# Altium schematic symbol library burr-brown.SCHLIB: 341 symbols (part 2 of 3)
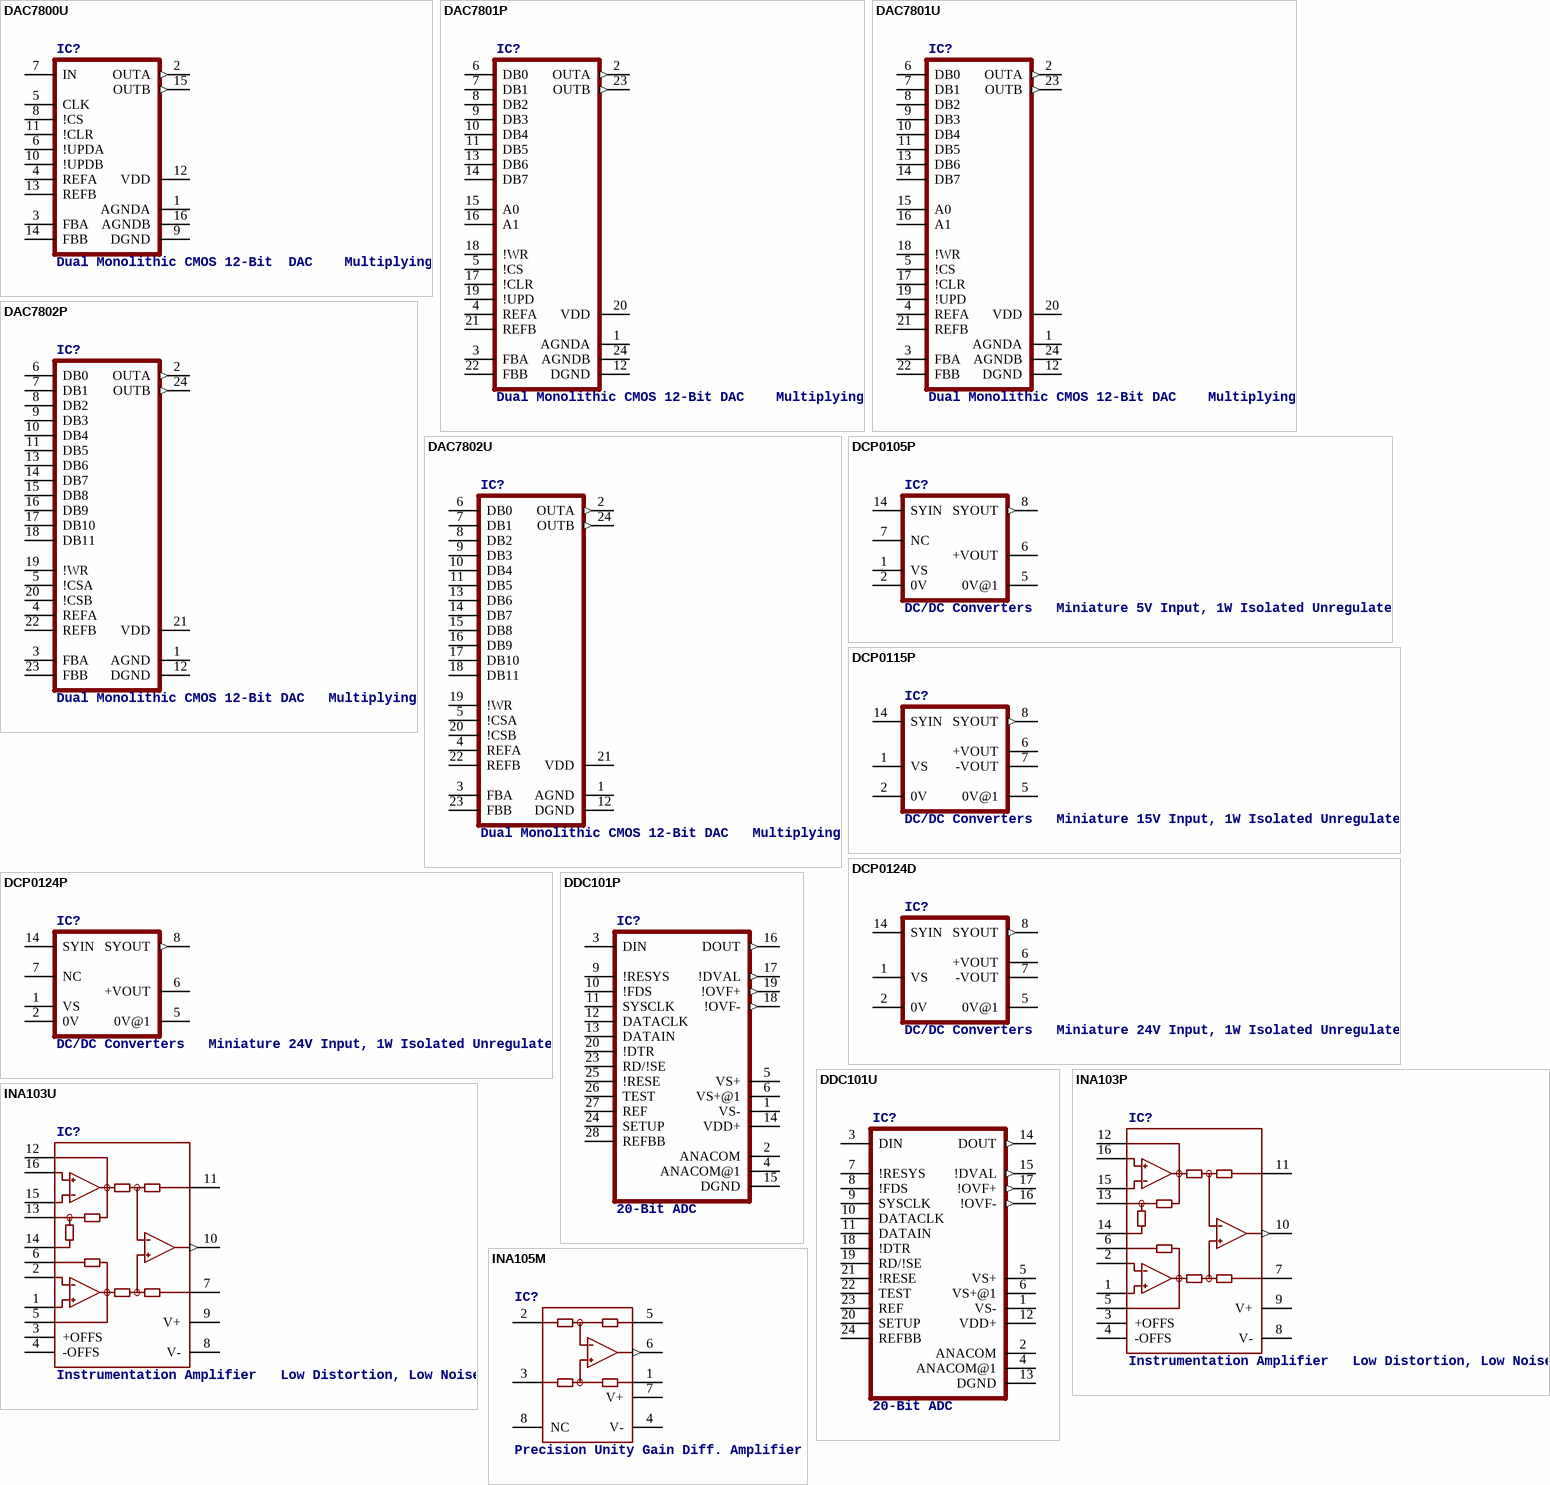
[diagram p28: symbols DAC7800U to INA105M]

## DCP0124P
designator IC?, comment DC/DC Converters   Miniature 24V Input, 1W Isolated Unregulated
MPN: DCP012415DBP-U; MF: TEXAS INSTRUMENTS; OC_FARNELL: 1247063; OC_NEWARK: 76K4235
footprint DIL14/7
pins: 1 VS (power), 2 0V (power), 5 0V@1 (power), 6 +VOUT (power), 7 NC, 8 SYOUT (out), 14 SYIN

## DDC101P
designator IC?, comment 20-Bit ADC
OC_FARNELL: unknown; OC_NEWARK: unknown
footprint DIL28
pins: 1 VS- (power), 2 ANACOM (power), 3 DIN, 4 ANACOM@1 (power), 5 VS+ (power), 6 VS+@1 (power), 9 !RESYS, 10 !FDS, 11 SYSCLK, 12 DATACLK, 13 DATAIN, 14 VDD+ (power), 15 DGND, 16 DOUT (out), 17 !DVAL (out), 18 !OVF- (out), 19 !OVF+ (out), 20 !DTR, 23 RD/!SE, 24 SETUP, 25 !RESE, 26 TEST, 27 REF, 28 REFBB

## DDC101U
designator IC?, comment 20-Bit ADC
MPN: DDC101U; MF: TEXAS INSTRUMENTS; OC_FARNELL: 1459305; OC_NEWARK: 05M6382
footprint SO24L
pins: 1 VS- (power), 2 ANACOM (power), 3 DIN, 4 ANACOM@1 (power), 5 VS+ (power), 6 VS+@1 (power), 7 !RESYS, 8 !FDS, 9 SYSCLK, 10 DATACLK, 11 DATAIN, 12 VDD+ (power), 13 DGND, 14 DOUT (out), 15 !DVAL (out), 16 !OVF- (out), 17 !OVF+ (out), 18 !DTR, 19 RD/!SE, 20 SETUP, 21 !RESE, 22 TEST, 23 REF, 24 REFBB

## INA103P
designator IC?, comment Instrumentation Amplifier   Low Distortion, Low Noise
MPN: INA103KP; MF: TEXAS INSTRUMENTS; OC_FARNELL: 1212392; OC_NEWARK: 74K3805
footprint DIL16
pins: 1 +IN, 2 +GS, 3 +OFFS, 4 -OFFS, 5 +GD, 6 +RG, 7 REF, 8 V- (power), 9 V+ (power), 10 OUT (out), 11 SENSE, 12 -GD, 13 -RG, 14 G=100, 15 -GS, 16 -IN

## INA103U
designator IC?, comment Instrumentation Amplifier   Low Distortion, Low Noise
MPN: INA103KU; MF: TEXAS INSTRUMENTS; OC_FARNELL: 1212393; OC_NEWARK: 35C1712
footprint SO16-1
pins: 1 +IN, 2 +GS, 3 +OFFS, 4 -OFFS, 5 +GD, 6 +RG, 7 REF, 8 V- (power), 9 V+ (power), 10 OUT (out), 11 SENSE, 12 -GD, 13 -RG, 14 G=100, 15 -GS, 16 -IN

## INA105M
designator IC?, comment Precision Unity Gain Diff. Amplifier
MPN: INA105BM; MF: TEXAS INSTRUMENT CONNECTORS; OC_FARNELL: 1459423; OC_NEWARK: 88K1114
footprint TO99
pins: 1 REF, 2 -IN, 3 +IN, 4 V- (power), 5 SENSE, 6 OUT (out), 7 V+ (power), 8 NC

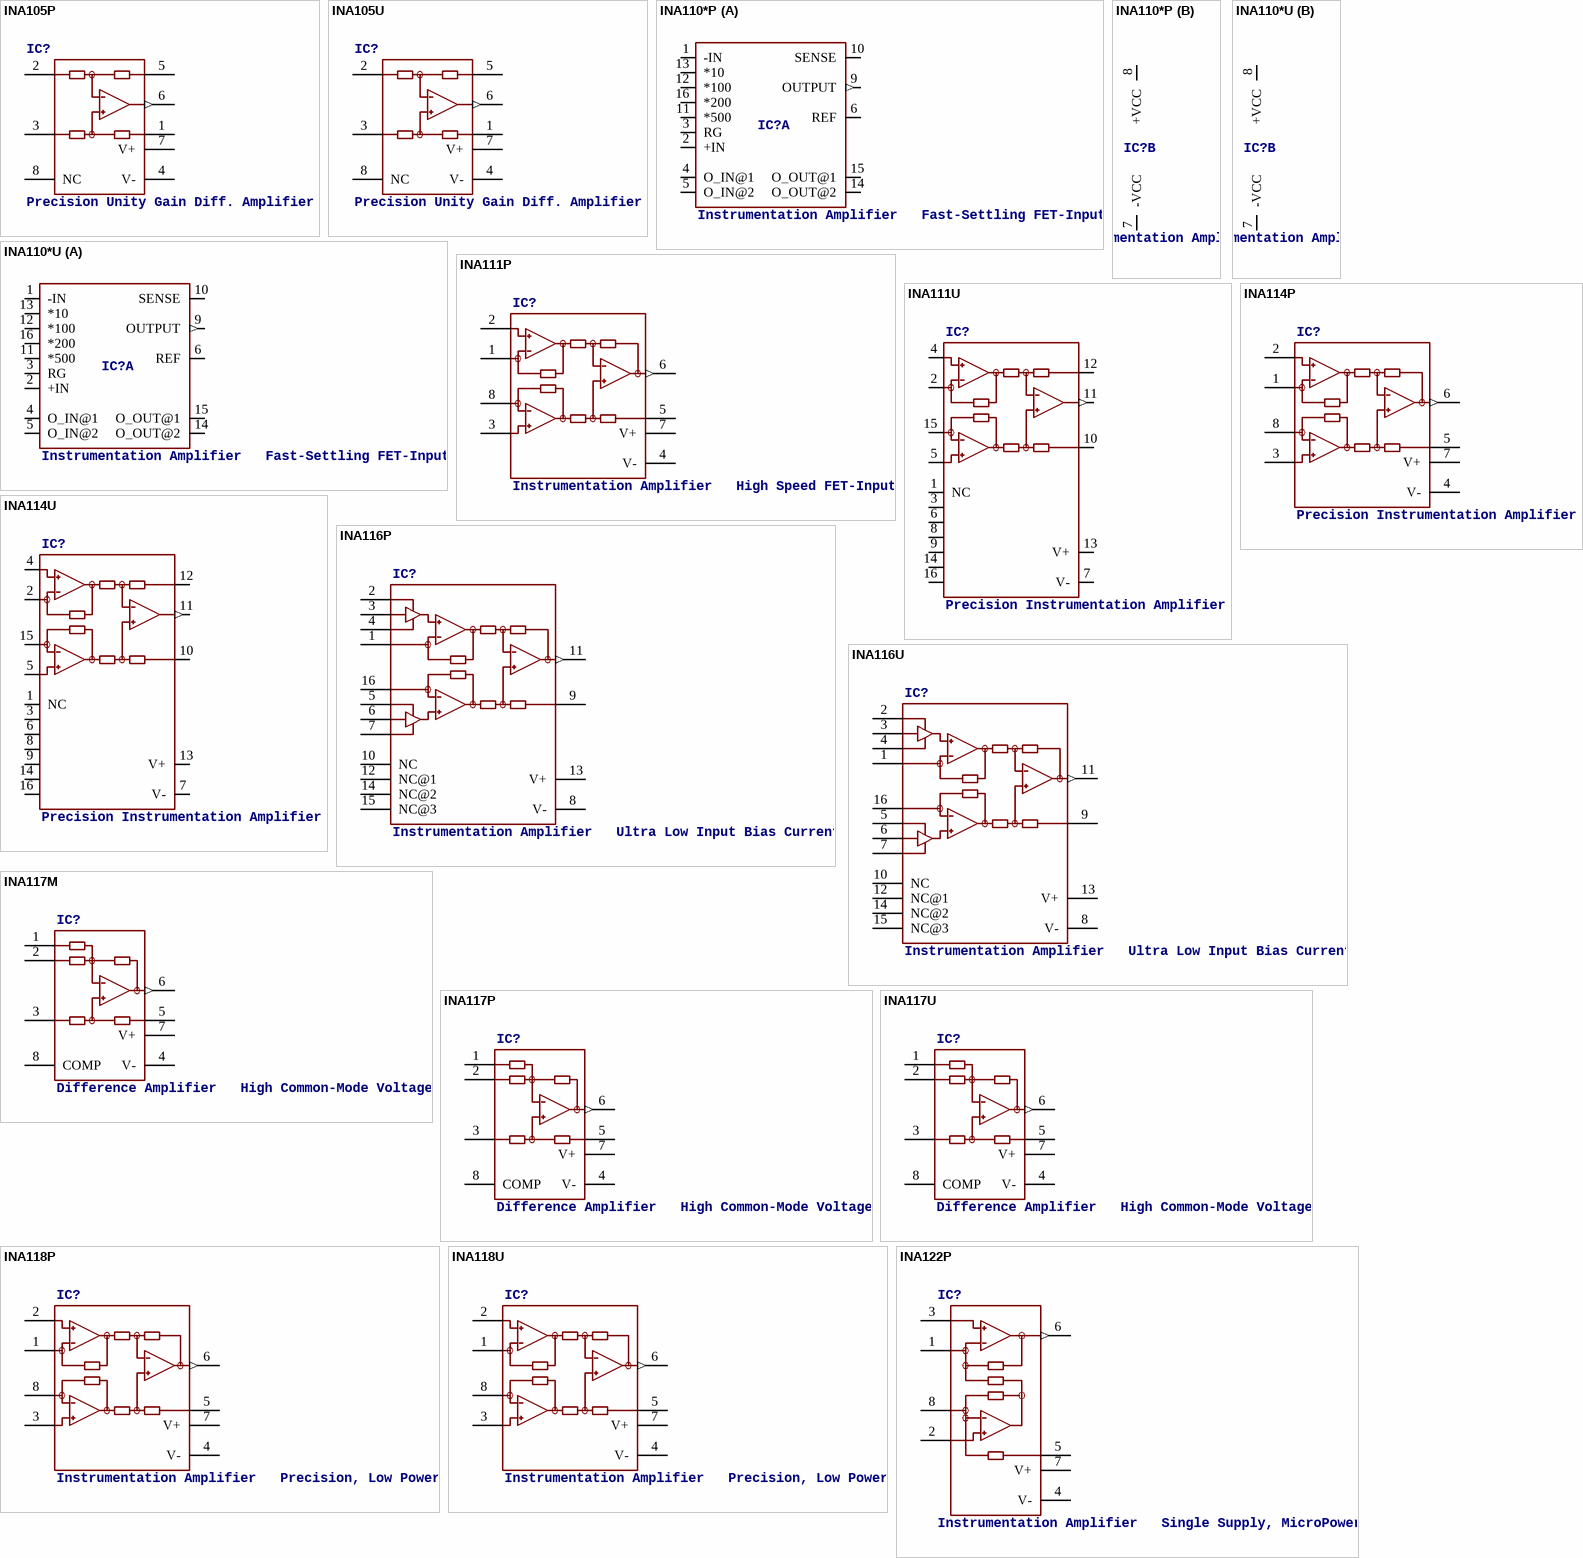
[diagram p10: symbols INA105P to INA122P]

## INA105P
designator IC?, comment Precision Unity Gain Diff. Amplifier
MPN: INA105KP; MF: TEXAS INSTRUMENTS; OC_FARNELL: 1651850; OC_NEWARK: 04M4538
footprint DIL08
pins: 1 REF, 2 -IN, 3 +IN, 4 V- (power), 5 SENSE, 6 OUT (out), 7 V+ (power), 8 NC

## INA105U
designator IC?, comment Precision Unity Gain Diff. Amplifier
MPN: INA105KU; MF: TEXAS INSTRUMENTS; OC_FARNELL: 1754832; OC_NEWARK: 35C0475
footprint SO08
pins: 1 REF, 2 -IN, 3 +IN, 4 V- (power), 5 SENSE, 6 OUT (out), 7 V+ (power), 8 NC

## INA110*P
designator IC?, comment Instrumentation Amplifier   Fast-Settling FET-Input
MPN: INA110KP; MF: TEXAS INSTRUMENTS; OC_FARNELL: 1097535; OC_NEWARK: 74K3807
footprint DIL16
part A pins: 1 -IN, 2 +IN, 3 RG, 4 O_IN@1, 5 O_IN@2, 6 REF, 9 OUTPUT (out), 10 SENSE, 11 *500, 12 *100, 13 *10, 14 O_OUT@2, 15 O_OUT@1, 16 *200
part B pins: 7 -VCC (power), 8 +VCC (power)

## INA110*U
designator IC?, comment Instrumentation Amplifier   Fast-Settling FET-Input
MPN: INA110KU; MF: TEXAS INSTRUMENTS; OC_FARNELL: 1212396; OC_NEWARK: 04M4539
footprint SO16-1
part A pins: 1 -IN, 2 +IN, 3 RG, 4 O_IN@1, 5 O_IN@2, 6 REF, 9 OUTPUT (out), 10 SENSE, 11 *500, 12 *100, 13 *10, 14 O_OUT@2, 15 O_OUT@1, 16 *200
part B pins: 7 -VCC (power), 8 +VCC (power)

## INA111P
designator IC?, comment Instrumentation Amplifier   High Speed FET-Input
MPN: INA111BP; MF: TEXAS INSTRUMENT CONNECTORS; OC_FARNELL: 1212397; OC_NEWARK: 27C4351
footprint DIL08
pins: 1 RG, 2 -IN, 3 +IN, 4 V- (power), 5 REF, 6 OUT (out), 7 V+ (power), 8 RG@1

## INA111U
designator IC?, comment Precision Instrumentation Amplifier
MPN: INA111BP; MF: TEXAS INSTRUMENT CONNECTORS; OC_FARNELL: 1212397; OC_NEWARK: 27C4351
footprint SO16-1
pins: 1 NC, 2 RG, 3 NC@1, 4 -IN, 5 +IN, 6 NC@2, 7 V- (power), 8 NC@3, 9 NC@4, 10 REF, 11 OUT (out), 12 FB, 13 V+ (power), 14 NC@5, 15 RG@1, 16 NC@6

## INA114P
designator IC?, comment Precision Instrumentation Amplifier
MPN: INA114BP; MF: TEXAS INSTRUMENTS; OC_FARNELL: 1212399; OC_NEWARK: 74K3810
footprint DIL08
pins: 1 RG, 2 -IN, 3 +IN, 4 V- (power), 5 REF, 6 OUT (out), 7 V+ (power), 8 RG@1

## INA114U
designator IC?, comment Precision Instrumentation Amplifier
MPN: INA114BU; MF: TEXAS INSTRUMENTS; OC_FARNELL: 1212401; OC_NEWARK: 74C9759
footprint SO16-1
pins: 1 NC, 2 RG, 3 NC@1, 4 -IN, 5 +IN, 6 NC@2, 7 V- (power), 8 NC@3, 9 NC@4, 10 REF, 11 OUT (out), 12 FB, 13 V+ (power), 14 NC@5, 15 RG@1, 16 NC@6

## INA116P
designator IC?, comment Instrumentation Amplifier   Ultra Low Input Bias Current
MPN: INA116PA; MF: TEXAS INSTRUMENT CONNECTORS; OC_FARNELL: 1231983; OC_NEWARK: 78K8300
footprint DIL16
pins: 1 RG, 2 GUARD-, 3 -IN, 4 GUARD-@1, 5 GUARD+, 6 +IN, 7 GUARD+@1, 8 V- (power), 9 REF, 10 NC, 11 OUT (out), 12 NC@1, 13 V+ (power), 14 NC@2, 15 NC@3, 16 RG@1

## INA116U
designator IC?, comment Instrumentation Amplifier   Ultra Low Input Bias Current
MPN: INA116UA; MF: TEXAS INSTRUMENTS; OC_FARNELL: 1212402; OC_NEWARK: 35C1717
footprint SO16-1
pins: 1 RG, 2 GUARD-, 3 -IN, 4 GUARD-@1, 5 GUARD+, 6 +IN, 7 GUARD+@1, 8 V- (power), 9 REF, 10 NC, 11 OUT (out), 12 NC@1, 13 V+ (power), 14 NC@2, 15 NC@3, 16 RG@1

## INA117M
designator IC?, comment Difference Amplifier   High Common-Mode Voltage
MPN: INA117AM; OC_FARNELL: 1459424; OC_NEWARK: 61M6784
footprint TO99
pins: 1 REFB, 2 -IN, 3 +IN, 4 V- (power), 5 REFA, 6 OUT (out), 7 V+ (power), 8 COMP

## INA117P
designator IC?, comment Difference Amplifier   High Common-Mode Voltage
MPN: INA117P; MF: TEXAS INSTRUMENTS; OC_FARNELL: 1470350; OC_NEWARK: 74K3811
footprint DIL08
pins: 1 REFB, 2 -IN, 3 +IN, 4 V- (power), 5 REFA, 6 OUT (out), 7 V+ (power), 8 COMP

## INA117U
designator IC?, comment Difference Amplifier   High Common-Mode Voltage
MPN: INA117KU; MF: TEXAS INSTRUMENTS; OC_FARNELL: 1706653; OC_NEWARK: 17M6717
footprint SO08
pins: 1 REFB, 2 -IN, 3 +IN, 4 V- (power), 5 REFA, 6 OUT (out), 7 V+ (power), 8 COMP

## INA118P
designator IC?, comment Instrumentation Amplifier   Precision, Low Power
MPN: INA118P; MF: TEXAS INSTRUMENTS; OC_FARNELL: 1470354; OC_NEWARK: 96K4515
footprint DIL08
pins: 1 RG, 2 -IN, 3 +IN, 4 V- (power), 5 REF, 6 OUT (out), 7 V+ (power), 8 RG@1

## INA118U
designator IC?, comment Instrumentation Amplifier   Precision, Low Power
MPN: INA118U; MF: TEXAS INSTRUMENTS; OC_FARNELL: 1212404; OC_NEWARK: 04M6168
footprint SO08
pins: 1 RG, 2 -IN, 3 +IN, 4 V- (power), 5 REF, 6 OUT (out), 7 V+ (power), 8 RG@1

## INA122P
designator IC?, comment Instrumentation Amplifier   Single Supply, MicroPower
MPN: INA122P; MF: TEXAS INSTRUMENTS; OC_FARNELL: 1459460; OC_NEWARK: 15M0948
footprint DIL08
pins: 1 RG, 2 -IN, 3 +IN, 4 V- (power), 5 REF, 6 OUT (out), 7 V+ (power), 8 RG@1

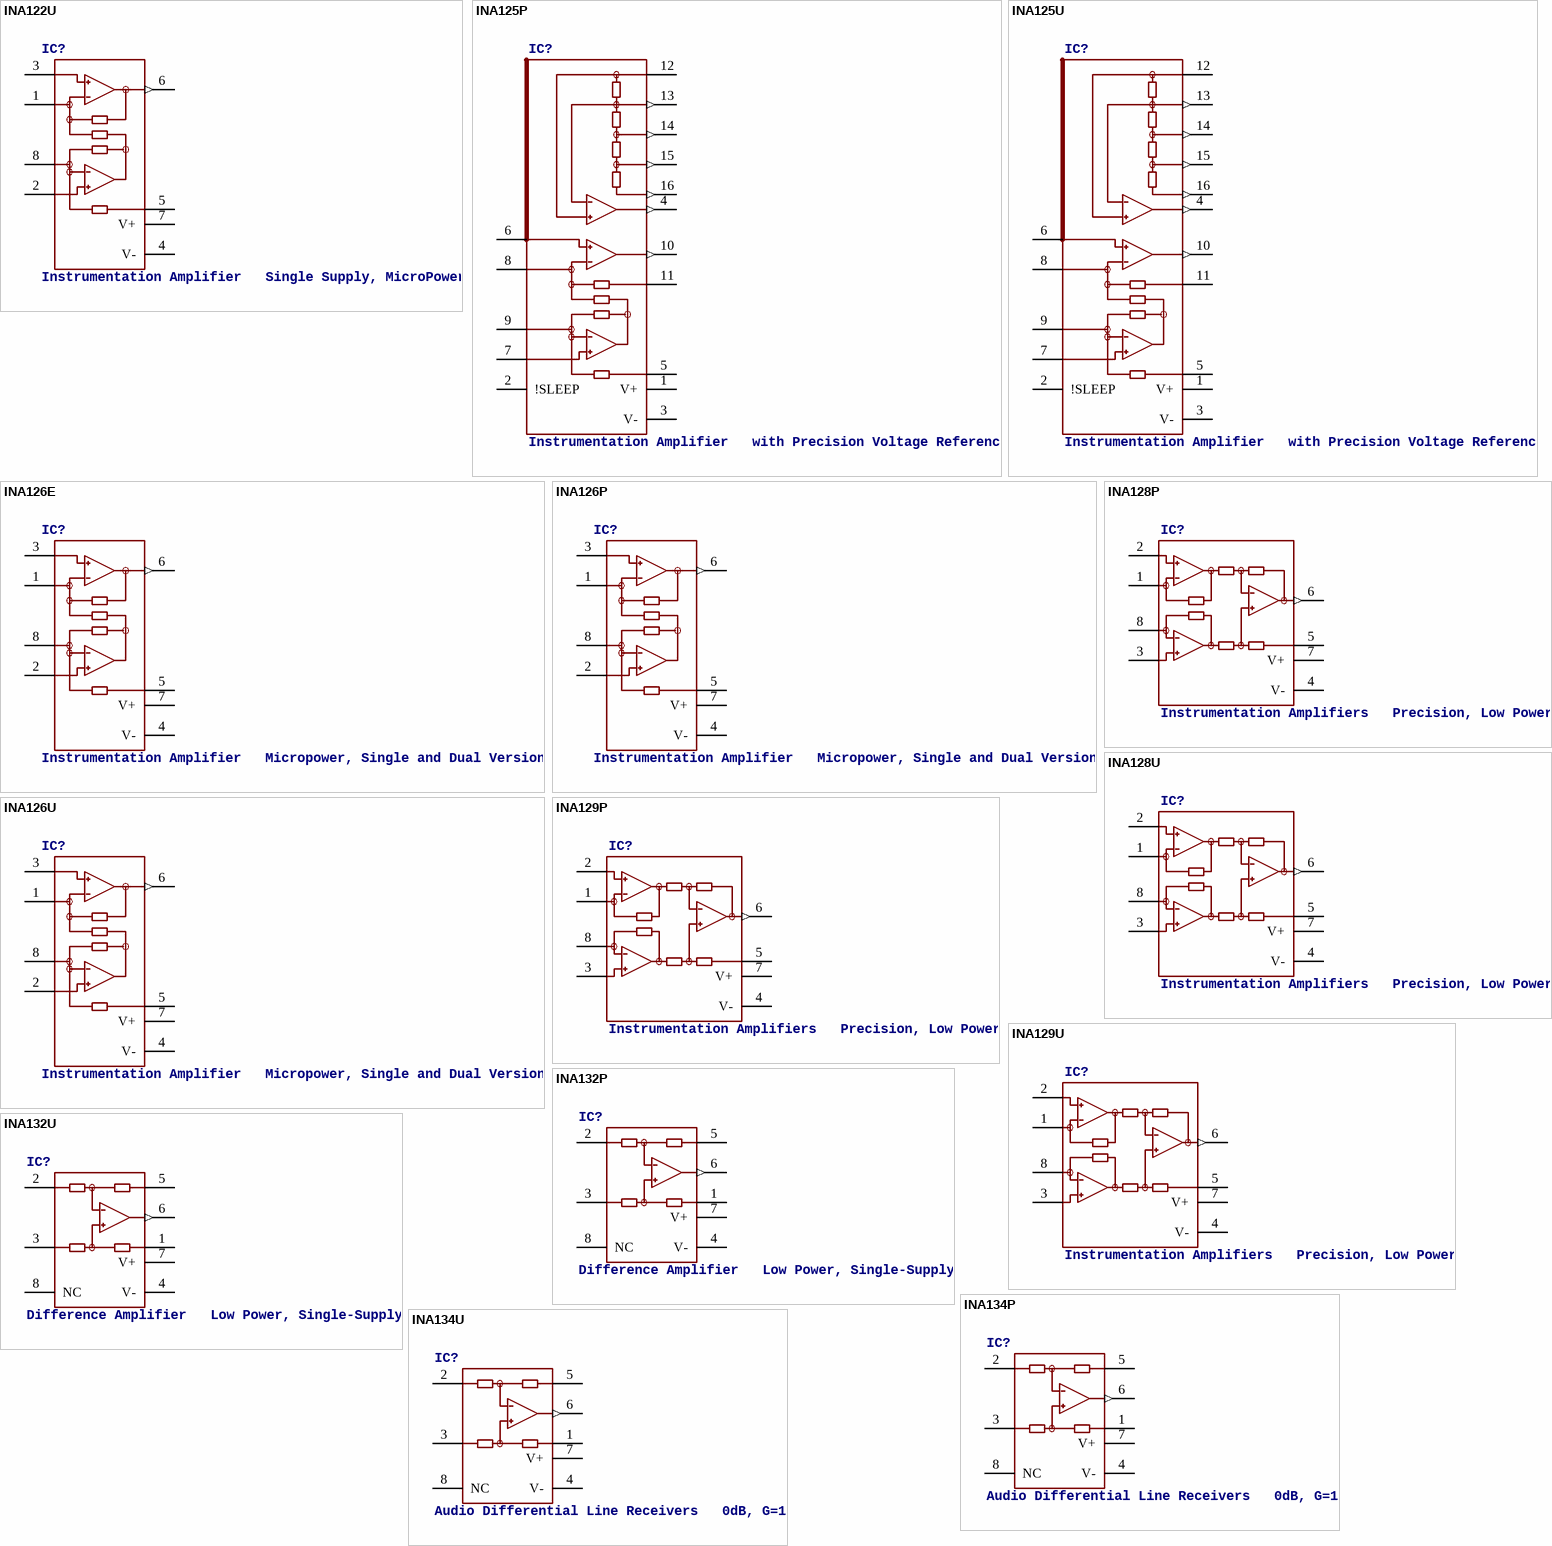
[diagram p11: symbols INA122U to INA134U]

## INA122U
designator IC?, comment Instrumentation Amplifier   Single Supply, MicroPower
MPN: INA122U; OC_FARNELL: 1212407; OC_NEWARK: 97K1918
footprint SO08
pins: 1 RG, 2 -IN, 3 +IN, 4 V- (power), 5 REF, 6 OUT (out), 7 V+ (power), 8 RG@1

## INA125P
designator IC?, comment Instrumentation Amplifier   with Precision Voltage Reference
MPN: INA125P; MF: TEXAS INSTRUMENT CONNECTORS; OC_FARNELL: 1459461; OC_NEWARK: 35C1726
footprint DIL16
pins: 1 V+ (power), 2 !SLEEP, 3 V- (power), 4 REFOUT (out), 5 REF, 6 +IN, 7 -IN, 8 RG, 9 RG@1, 10 OUT (out), 11 SENSE, 12 REFCOM, 13 REFBG (out), 14 REF2.5 (out), 15 REF5 (out), 16 REF10 (out)

## INA125U
designator IC?, comment Instrumentation Amplifier   with Precision Voltage Reference
MPN: INA125U; MF: TEXAS INSTRUMENT CONNECTORS; OC_FARNELL: 1304375; OC_NEWARK: 80K5901
footprint SO16-1
pins: 1 V+ (power), 2 !SLEEP, 3 V- (power), 4 REFOUT (out), 5 REF, 6 +IN, 7 -IN, 8 RG, 9 RG@1, 10 OUT (out), 11 SENSE, 12 REFCOM, 13 REFBG (out), 14 REF2.5 (out), 15 REF5 (out), 16 REF10 (out)

## INA126E
designator IC?, comment Instrumentation Amplifier   Micropower, Single and Dual Versions
MPN: INA126E/250; MF: TEXAS INSTRUMENTS; OC_FARNELL: 1575427; OC_NEWARK: 74C9777
footprint MSOP08
pins: 1 RG, 2 -IN, 3 +IN, 4 V- (power), 5 REF, 6 OUT (out), 7 V+ (power), 8 RG@1

## INA126P
designator IC?, comment Instrumentation Amplifier   Micropower, Single and Dual Versions
MPN: INA126P; MF: TEXAS INSTRUMENT CONNECTORS; OC_FARNELL: 1509595; OC_NEWARK: 74C9780
footprint DIL08
pins: 1 RG, 2 -IN, 3 +IN, 4 V- (power), 5 REF, 6 OUT (out), 7 V+ (power), 8 RG@1

## INA126U
designator IC?, comment Instrumentation Amplifier   Micropower, Single and Dual Versions
MPN: INA126U; MF: TEXAS INSTRUMENTS; OC_FARNELL: 1212409; OC_NEWARK: 84K8003
footprint SO08
pins: 1 RG, 2 -IN, 3 +IN, 4 V- (power), 5 REF, 6 OUT (out), 7 V+ (power), 8 RG@1

## INA128P
designator IC?, comment Instrumentation Amplifiers   Precision, Low Power
MPN: INA128P; MF: TEXAS INSTRUMENTS; OC_FARNELL: 1212410; OC_NEWARK: 74C9783
footprint DIL08
pins: 1 RG, 2 -IN, 3 +IN, 4 V- (power), 5 REF, 6 OUT (out), 7 V+ (power), 8 RG@1

## INA128U
designator IC?, comment Instrumentation Amplifiers   Precision, Low Power
MPN: INA128U; MF: TEXAS INSTRUMENTS; OC_FARNELL: 1212413; OC_NEWARK: 35C1729
footprint SO08
pins: 1 RG, 2 -IN, 3 +IN, 4 V- (power), 5 REF, 6 OUT (out), 7 V+ (power), 8 RG@1

## INA129P
designator IC?, comment Instrumentation Amplifiers   Precision, Low Power
MPN: INA129P; MF: TEXAS INSTRUMENTS; OC_FARNELL: 1212414; OC_NEWARK: 74C9786
footprint DIL08
pins: 1 RG, 2 -IN, 3 +IN, 4 V- (power), 5 REF, 6 OUT (out), 7 V+ (power), 8 RG@1

## INA129U
designator IC?, comment Instrumentation Amplifiers   Precision, Low Power
MPN: INA129U; MF: TEXAS INSTRUMENTS; OC_FARNELL: 1212415; OC_NEWARK: 35C1732
footprint SO08
pins: 1 RG, 2 -IN, 3 +IN, 4 V- (power), 5 REF, 6 OUT (out), 7 V+ (power), 8 RG@1

## INA132P
designator IC?, comment Difference Amplifier   Low Power, Single-Supply
OC_FARNELL: unknown; OC_NEWARK: unknown
footprint DIL08
pins: 1 REF, 2 -IN, 3 +IN, 4 V- (power), 5 SENSE, 6 OUT (out), 7 V+ (power), 8 NC

## INA132U
designator IC?, comment Difference Amplifier   Low Power, Single-Supply
MPN: INA132U; MF: TEXAS INSTRUMENTS; OC_FARNELL: 1212416; OC_NEWARK: 35C1734
footprint SO08
pins: 1 REF, 2 -IN, 3 +IN, 4 V- (power), 5 SENSE, 6 OUT (out), 7 V+ (power), 8 NC

## INA134P
designator IC?, comment Audio Differential Line Receivers   0dB, G=1
MPN: INA134PA; MF: TEXAS INSTRUMENT CONNECTORS; OC_FARNELL: 1247366; OC_NEWARK: 88K1115
footprint DIL08
pins: 1 REF, 2 -IN, 3 +IN, 4 V- (power), 5 SENSE, 6 OUT (out), 7 V+ (power), 8 NC

## INA134U
designator IC?, comment Audio Differential Line Receivers   0dB, G=1
MPN: INA134UAE4; OC_FARNELL: 1206899; OC_NEWARK: 97K1923
footprint SO08
pins: 1 REF, 2 -IN, 3 +IN, 4 V- (power), 5 SENSE, 6 OUT (out), 7 V+ (power), 8 NC

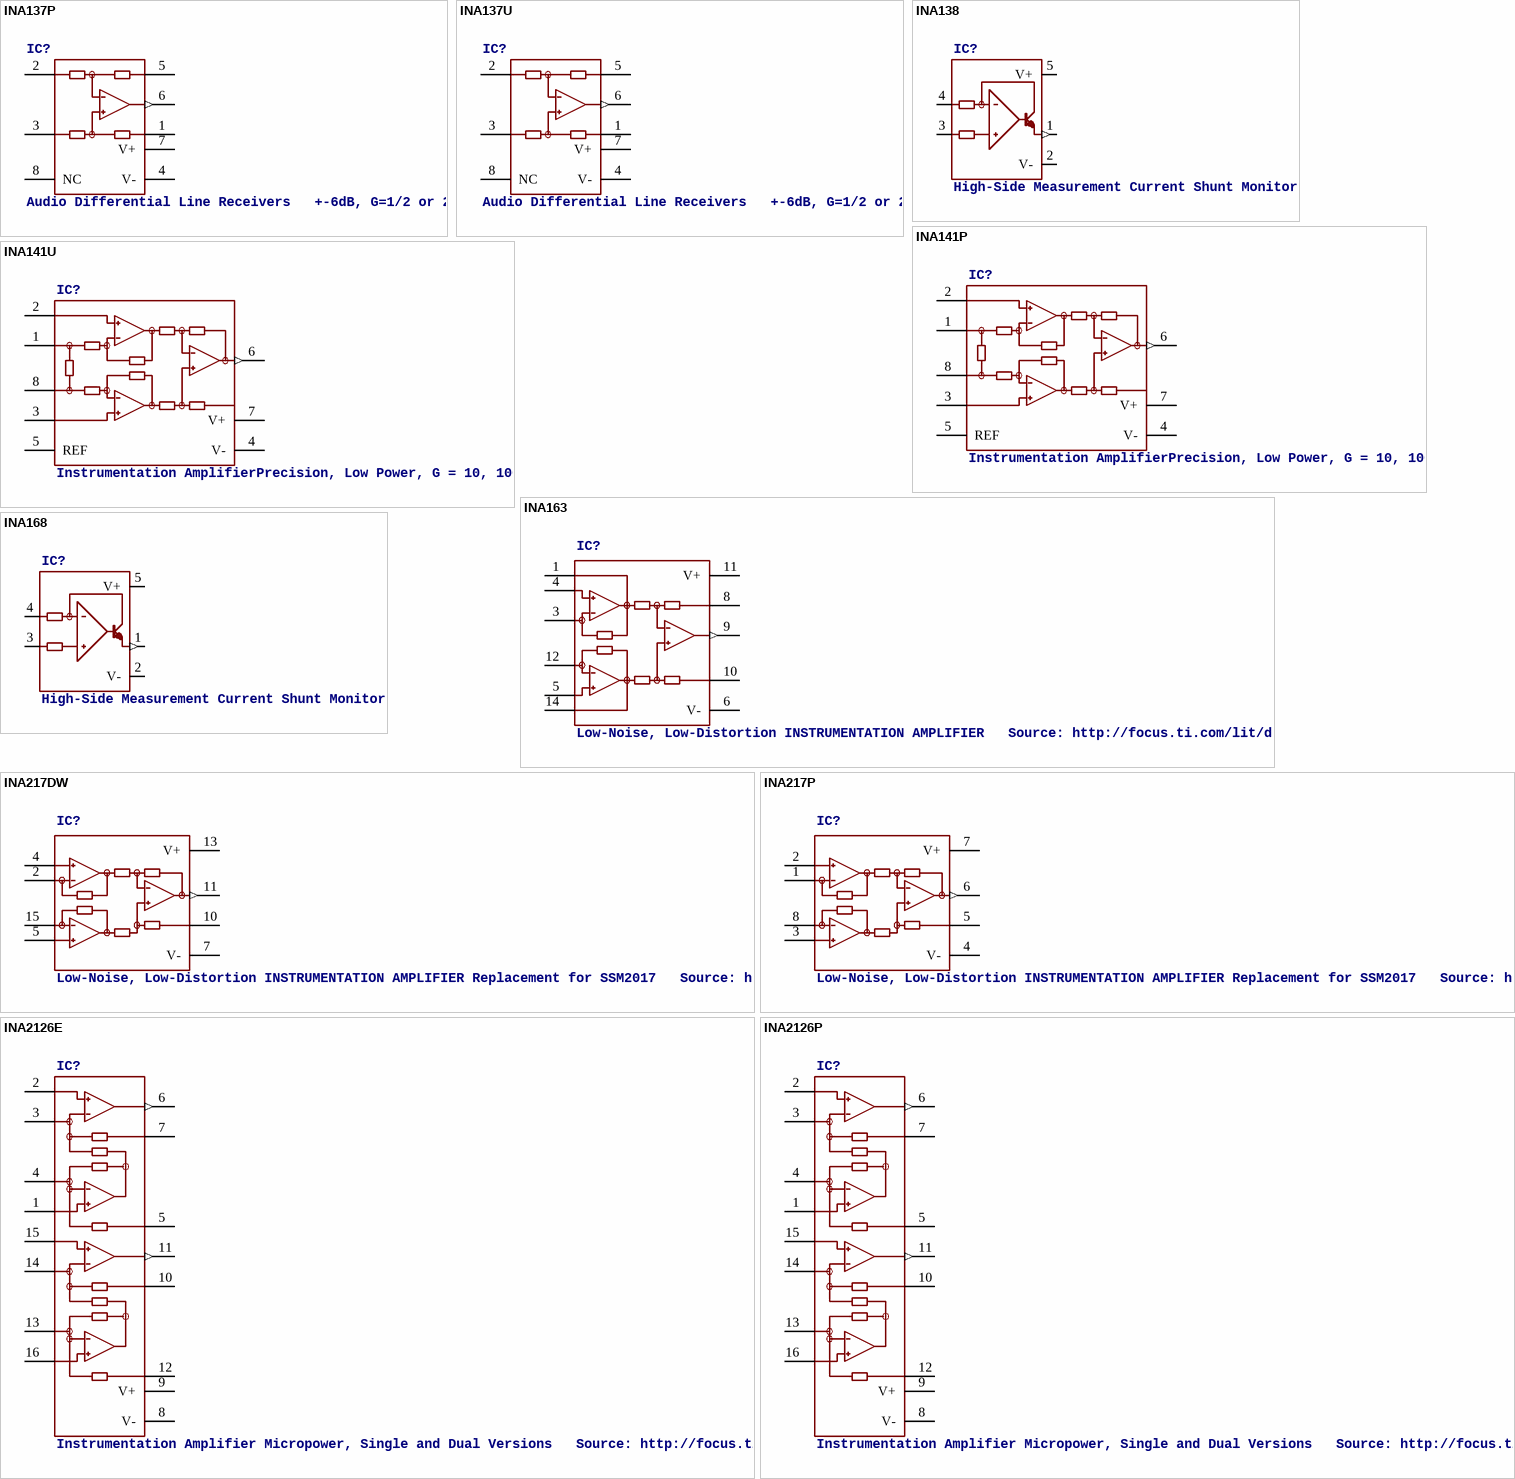
[diagram p12: symbols INA137P to INA2126P]

## INA137P
designator IC?, comment Audio Differential Line Receivers   +-6dB, G=1/2 or 2
MPN: INA137PA; MF: TEXAS INSTRUMENTS; OC_FARNELL: 4970305; OC_NEWARK: 35C0496
footprint DIL08
pins: 1 REF, 2 -IN, 3 +IN, 4 V- (power), 5 SENSE, 6 OUT (out), 7 V+ (power), 8 NC

## INA137U
designator IC?, comment Audio Differential Line Receivers   +-6dB, G=1/2 or 2
MPN: INA137UA; MF: TEXAS INSTRUMENTS; OC_FARNELL: 1212418; OC_NEWARK: 80K5905
footprint SO08
pins: 1 REF, 2 -IN, 3 +IN, 4 V- (power), 5 SENSE, 6 OUT (out), 7 V+ (power), 8 NC

## INA138
designator IC?, comment High-Side Measurement Current Shunt Monitor
MPN: INA138NA/250; MF: TEXAS INSTRUMENTS; OC_FARNELL: 1564888; OC_NEWARK: 80K5906
footprint SOT23-5
pins: 1 OUT (out), 2 V- (power), 3 IN+, 4 IN-, 5 V+ (power)

## INA141P
designator IC?, comment Instrumentation AmplifierPrecision, Low Power, G = 10, 100
OC_FARNELL: unknown; OC_NEWARK: unknown
footprint DIL08
pins: 1 J, 2 -IN, 3 +IN, 4 V- (power), 5 REF, 6 OUT (out), 7 V+ (power), 8 J@1

## INA141U
designator IC?, comment Instrumentation AmplifierPrecision, Low Power, G = 10, 100
MPN: INA141U; MF: TEXAS INSTRUMENTS; OC_FARNELL: 1212419; OC_NEWARK: 80K5907
footprint SO08
pins: 1 J, 2 -IN, 3 +IN, 4 V- (power), 5 REF, 6 OUT (out), 7 V+ (power), 8 J@1

## INA163
designator IC?, comment Low-Noise, Low-Distortion INSTRUMENTATION AMPLIFIER   Source: http://focus.ti.com/lit/ds/symlink/ina163.pdf
MPN: INA163UAE4; OC_FARNELL: 1206906; OC_NEWARK: 97K1930
footprint SO14
pins: 1 VO1, 3 GS1, 4 -IN, 5 +IN, 6 V- (power), 8 SENSE, 9 OUT (out), 10 REF, 11 V+ (power), 12 GS2, 14 VO2

## INA168
designator IC?, comment High-Side Measurement Current Shunt Monitor
MPN: INA168NA/250; MF: TEXAS INSTRUMENTS; OC_FARNELL: 4375737; OC_NEWARK: 35C1744
footprint SOT23-5
pins: 1 OUT (out), 2 V- (power), 3 IN+, 4 IN-, 5 V+ (power)

## INA217DW
designator IC?, comment Low-Noise, Low-Distortion INSTRUMENTATION AMPLIFIER Replacement for SSM2017   Source: http://focus.ti.com/lit/ds/symlink/ina217.pdf
MPN: INA217AIDWT; MF: TEXAS INSTRUMENTS; OC_FARNELL: 1459470; OC_NEWARK: 02E2758
footprint DW_RPDSO-G16
pins: 2 RG1, 4 -IN, 5 +IN, 7 V- (power), 10 REF, 11 OUT (out), 13 V+ (power), 15 RG2

## INA217P
designator IC?, comment Low-Noise, Low-Distortion INSTRUMENTATION AMPLIFIER Replacement for SSM2017   Source: http://focus.ti.com/lit/ds/symlink/ina217.pdf
MPN: INA217AIP; MF: TEXAS INSTRUMENTS; OC_FARNELL: 1212423; OC_NEWARK: 74C9859
footprint DIL08
pins: 1 RG1, 2 -IN, 3 +IN, 4 V- (power), 5 REF, 6 OUT (out), 7 V+ (power), 8 RG2

## INA2126E
designator IC?, comment Instrumentation Amplifier Micropower, Single and Dual Versions   Source: http://focus.ti.com/lit/ds/symlink/ina2126.pdf
MPN: INA2126UAE4; OC_FARNELL: 1234796; OC_NEWARK: 13M1604
footprint SSOP16BU
pins: 1 -INA, 2 +INA, 3 RGA, 4 RGA@1, 5 REFA (power), 6 OUTA (out), 7 SENSEA, 8 V- (power), 9 V+ (power), 10 SENSEB, 11 OUTB (out), 12 REFB (power), 13 RGB@1, 14 RGB, 15 +INB, 16 -INB

## INA2126P
designator IC?, comment Instrumentation Amplifier Micropower, Single and Dual Versions   Source: http://focus.ti.com/lit/ds/symlink/ina2126.pdf
MPN: INA2126P; MF: TEXAS INSTRUMENT CONNECTORS; OC_FARNELL: 1535404; OC_NEWARK: 74C9838
footprint DIL16
pins: 1 -INA, 2 +INA, 3 RGA, 4 RGA@1, 5 REFA (power), 6 OUTA (out), 7 SENSEA, 8 V- (power), 9 V+ (power), 10 SENSEB, 11 OUTB (out), 12 REFB (power), 13 RGB@1, 14 RGB, 15 +INB, 16 -INB

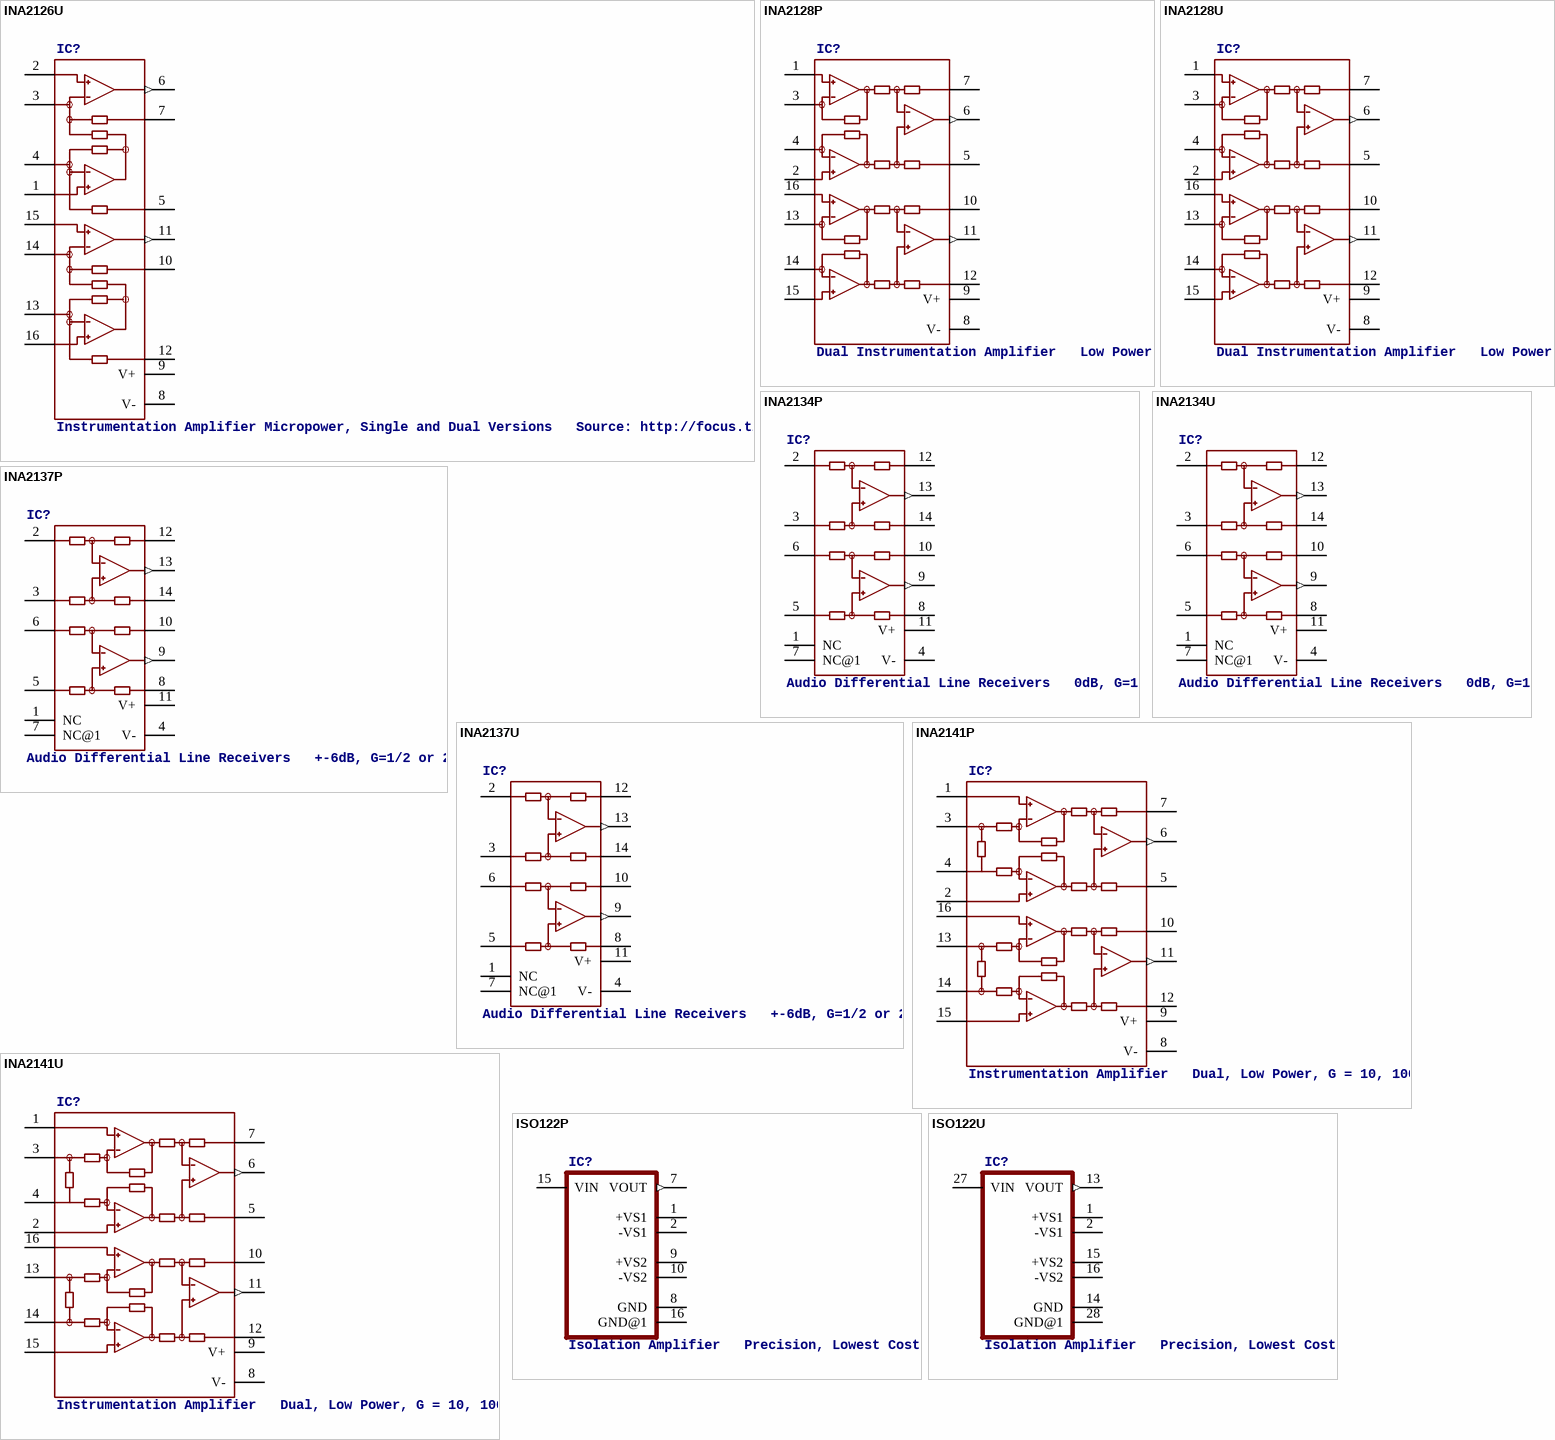
[diagram p13: symbols INA2126U to ISO122U]

## INA2126U
designator IC?, comment Instrumentation Amplifier Micropower, Single and Dual Versions   Source: http://focus.ti.com/lit/ds/symlink/ina2126.pdf
MPN: INA2126U; MF: TEXAS INSTRUMENT CONNECTORS; OC_FARNELL: 1459464; OC_NEWARK: 74C9839
footprint SO16
pins: 1 -INA, 2 +INA, 3 RGA, 4 RGA@1, 5 REFA (power), 6 OUTA (out), 7 SENSEA, 8 V- (power), 9 V+ (power), 10 SENSEB, 11 OUTB (out), 12 REFB (power), 13 RGB@1, 14 RGB, 15 +INB, 16 -INB

## INA2128P
designator IC?, comment Dual Instrumentation Amplifier   Low Power
OC_FARNELL: unknown; OC_NEWARK: unknown
footprint DIL16
pins: 1 INA-, 2 INA+, 3 RGA, 4 RGA@1, 5 REFA, 6 VOA (out), 7 SENSEA, 8 V- (power), 9 V+ (power), 10 SENSEB, 11 VOB (out), 12 REFB, 13 RGB, 14 RGB@1, 15 INB+, 16 INB-

## INA2128U
designator IC?, comment Dual Instrumentation Amplifier   Low Power
MPN: INA2128U; MF: TEXAS INSTRUMENTS; OC_FARNELL: 1212421; OC_NEWARK: 28C7388
footprint SO16-1
pins: 1 INA-, 2 INA+, 3 RGA, 4 RGA@1, 5 REFA, 6 VOA (out), 7 SENSEA, 8 V- (power), 9 V+ (power), 10 SENSEB, 11 VOB (out), 12 REFB, 13 RGB, 14 RGB@1, 15 INB+, 16 INB-

## INA2134P
designator IC?, comment Audio Differential Line Receivers   0dB, G=1
MPN: INA2134PA; MF: TEXAS INSTRUMENT CONNECTORS; OC_FARNELL: unknown; OC_NEWARK: 14M8174
footprint DIL14
pins: 1 NC, 2 -INA, 3 +INA, 4 V- (power), 5 +INB, 6 -INB, 7 NC@1, 8 REFB, 9 OUTB (out), 10 SENSEB, 11 V+ (power), 12 SENSEA, 13 OUTA (out), 14 REFA

## INA2134U
designator IC?, comment Audio Differential Line Receivers   0dB, G=1
MPN: INA2134UA; MF: TEXAS INSTRUMENTS; OC_FARNELL: 1212422; OC_NEWARK: 35C1748
footprint SO14
pins: 1 NC, 2 -INA, 3 +INA, 4 V- (power), 5 +INB, 6 -INB, 7 NC@1, 8 REFB, 9 OUTB (out), 10 SENSEB, 11 V+ (power), 12 SENSEA, 13 OUTA (out), 14 REFA

## INA2137P
designator IC?, comment Audio Differential Line Receivers   +-6dB, G=1/2 or 2
MPN: INA2137PA; MF: TEXAS INSTRUMENT CONNECTORS; OC_FARNELL: unknown; OC_NEWARK: 18M9116
footprint DIL14
pins: 1 NC, 2 -INA, 3 +INA, 4 V- (power), 5 +INB, 6 -INB, 7 NC@1, 8 REFB, 9 OUTB (out), 10 SENSEB, 11 V+ (power), 12 SENSEA, 13 OUTA (out), 14 REFA

## INA2137U
designator IC?, comment Audio Differential Line Receivers   +-6dB, G=1/2 or 2
MPN: INA2137UA; MF: TEXAS INSTRUMENTS; OC_FARNELL: 1703321; OC_NEWARK: 35C1749
footprint SO14
pins: 1 NC, 2 -INA, 3 +INA, 4 V- (power), 5 +INB, 6 -INB, 7 NC@1, 8 REFB, 9 OUTB (out), 10 SENSEB, 11 V+ (power), 12 SENSEA, 13 OUTA (out), 14 REFA

## INA2141P
designator IC?, comment Instrumentation Amplifier   Dual, Low Power, G = 10, 100
OC_FARNELL: unknown; OC_NEWARK: unknown
footprint DIL16
pins: 1 INA-, 2 INA+, 3 JA, 4 JA@1, 5 REFA, 6 VOA (out), 7 SENSEA, 8 V- (power), 9 V+ (power), 10 SENSEB, 11 VOB (out), 12 REFB, 13 JB, 14 JB@1, 15 INB+, 16 INB-

## INA2141U
designator IC?, comment Instrumentation Amplifier   Dual, Low Power, G = 10, 100
MPN: INA2141U; MF: TEXAS INSTRUMENT CONNECTORS; OC_FARNELL: 1459468; OC_NEWARK: 74C9853
footprint SO16-1
pins: 1 INA-, 2 INA+, 3 JA, 4 JA@1, 5 REFA, 6 VOA (out), 7 SENSEA, 8 V- (power), 9 V+ (power), 10 SENSEB, 11 VOB (out), 12 REFB, 13 JB, 14 JB@1, 15 INB+, 16 INB-

## ISO122P
designator IC?, comment Isolation Amplifier   Precision, Lowest Cost
MPN: ISO122P; OC_FARNELL: 1520510; OC_NEWARK: 55M8194
footprint DIL16/8
pins: 1 +VS1 (power), 2 -VS1 (power), 7 VOUT (out), 8 GND (power), 9 +VS2 (power), 10 -VS2 (power), 15 VIN, 16 GND@1 (power)

## ISO122U
designator IC?, comment Isolation Amplifier   Precision, Lowest Cost
MPN: ISO122UE4; OC_FARNELL: 1206915; OC_NEWARK: 61K0056
footprint SO28-3/8
pins: 1 +VS1 (power), 2 -VS1 (power), 13 VOUT (out), 14 GND (power), 15 +VS2 (power), 16 -VS2 (power), 27 VIN, 28 GND@1 (power)

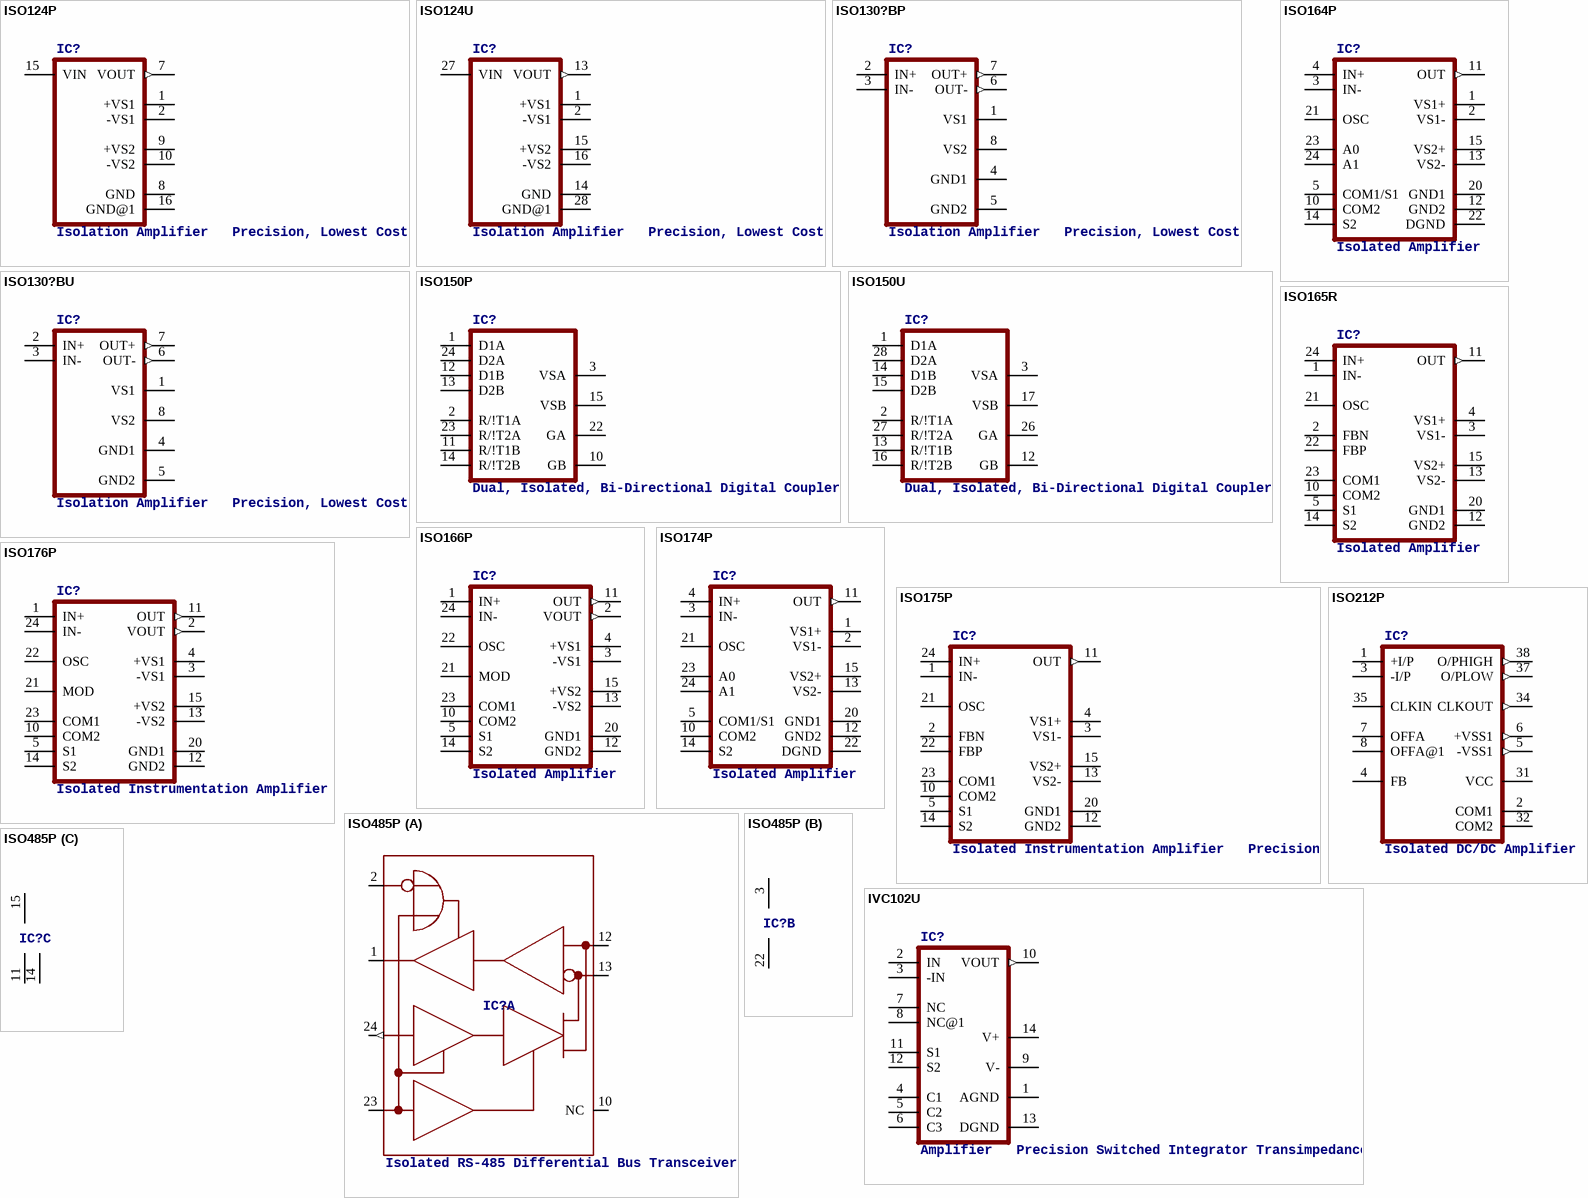
[diagram p14: symbols ISO124P to IVC102U]

## ISO124P
designator IC?, comment Isolation Amplifier   Precision, Lowest Cost
MPN: ISO124P; MF: TEXAS INSTRUMENTS; OC_FARNELL: 1212425; OC_NEWARK: 35C1752
footprint DIL16/8
pins: 1 +VS1 (power), 2 -VS1 (power), 7 VOUT (out), 8 GND (power), 9 +VS2 (power), 10 -VS2 (power), 15 VIN, 16 GND@1 (power)

## ISO124U
designator IC?, comment Isolation Amplifier   Precision, Lowest Cost
MPN: ISO124U; MF: TEXAS INSTRUMENTS; OC_FARNELL: 1212426; OC_NEWARK: 10M8426
footprint SO28-3/8
pins: 1 +VS1 (power), 2 -VS1 (power), 13 VOUT (out), 14 GND (power), 15 +VS2 (power), 16 -VS2 (power), 27 VIN, 28 GND@1 (power)

## ISO130?BP
designator IC?, comment Isolation Amplifier   Precision, Lowest Cost
OC_FARNELL: unknown; OC_NEWARK: unknown
footprint DIL08
pins: 1 VS1 (power), 2 IN+, 3 IN-, 4 GND1 (power), 5 GND2 (power), 6 OUT- (out), 7 OUT+ (out), 8 VS2 (power)

## ISO130?BU
designator IC?, comment Isolation Amplifier   Precision, Lowest Cost
OC_FARNELL: unknown; OC_NEWARK: unknown
footprint SO08-GW
pins: 1 VS1 (power), 2 IN+, 3 IN-, 4 GND1 (power), 5 GND2 (power), 6 OUT- (out), 7 OUT+ (out), 8 VS2 (power)

## ISO150P
designator IC?, comment Dual, Isolated, Bi-Directional Digital Coupler
OC_FARNELL: unknown; OC_NEWARK: unknown
footprint DIL24/12
pins: 1 D1A, 2 R/!T1A, 3 VSA (power), 10 GB (power), 11 R/!T1B, 12 D1B, 13 D2B, 14 R/!T2B, 15 VSB (power), 22 GA (power), 23 R/!T2A, 24 D2A

## ISO150U
designator IC?, comment Dual, Isolated, Bi-Directional Digital Coupler
MPN: ISO150AUG4; MF: TEXAS INSTRUMENTS; OC_FARNELL: 1206917; OC_NEWARK: 40K6952
footprint SO28-3/12
pins: 1 D1A, 2 R/!T1A, 3 VSA (power), 12 GB (power), 13 R/!T1B, 14 D1B, 15 D2B, 16 R/!T2B, 17 VSB (power), 26 GA (power), 27 R/!T2A, 28 D2A

## ISO164P
designator IC?, comment Isolated Amplifier
OC_FARNELL: unknown; OC_NEWARK: unknown
footprint DIL24/16
pins: 1 VS1+ (power), 2 VS1- (power), 3 IN-, 4 IN+, 5 COM1/S1, 10 COM2, 11 OUT (out), 12 GND2 (power), 13 VS2- (power), 14 S2, 15 VS2+ (power), 20 GND1 (power), 21 OSC, 22 DGND (power), 23 A0, 24 A1

## ISO165R
designator IC?, comment Isolated Amplifier
OC_FARNELL: unknown; OC_NEWARK: unknown
footprint D24-3/16
pins: 1 IN-, 2 FBN, 3 VS1- (power), 4 VS1+ (power), 5 S1, 10 COM2, 11 OUT (out), 12 GND2 (power), 13 VS2- (power), 14 S2, 15 VS2+ (power), 20 GND1 (power), 21 OSC, 22 FBP, 23 COM1, 24 IN+

## ISO166P
designator IC?, comment Isolated Amplifier
OC_FARNELL: unknown; OC_NEWARK: unknown
footprint D24-3/16
pins: 1 IN+, 2 VOUT (out), 3 -VS1 (power), 4 +VS1 (power), 5 S1, 10 COM2, 11 OUT (out), 12 GND2 (power), 13 -VS2 (power), 14 S2, 15 +VS2 (power), 20 GND1 (power), 21 MOD, 22 OSC, 23 COM1, 24 IN-

## ISO174P
designator IC?, comment Isolated Amplifier
OC_FARNELL: unknown; OC_NEWARK: unknown
footprint DIL24/16
pins: 1 VS1+ (power), 2 VS1- (power), 3 IN-, 4 IN+, 5 COM1/S1, 10 COM2, 11 OUT (out), 12 GND2 (power), 13 VS2- (power), 14 S2, 15 VS2+ (power), 20 GND1 (power), 21 OSC, 22 DGND (power), 23 A0, 24 A1

## ISO175P
designator IC?, comment Isolated Instrumentation Amplifier   Precision
OC_FARNELL: unknown; OC_NEWARK: unknown
footprint D24-3/16
pins: 1 IN-, 2 FBN, 3 VS1- (power), 4 VS1+ (power), 5 S1, 10 COM2, 11 OUT (out), 12 GND2 (power), 13 VS2- (power), 14 S2, 15 VS2+ (power), 20 GND1 (power), 21 OSC, 22 FBP, 23 COM1, 24 IN+

## ISO176P
designator IC?, comment Isolated Instrumentation Amplifier
OC_FARNELL: unknown; OC_NEWARK: unknown
footprint D24-3/16
pins: 1 IN+, 2 VOUT (out), 3 -VS1 (power), 4 +VS1 (power), 5 S1, 10 COM2, 11 OUT (out), 12 GND2 (power), 13 -VS2 (power), 14 S2, 15 +VS2 (power), 20 GND1 (power), 21 MOD, 22 OSC, 23 COM1, 24 IN-

## ISO212P
designator IC?, comment Isolated DC/DC Amplifier
OC_FARNELL: unknown; OC_NEWARK: unknown
footprint ZZ326
pins: 1 +I/P, 2 COM1 (power), 3 -I/P, 4 FB, 5 -VSS1 (out), 6 +VSS1 (out), 7 OFFA, 8 OFFA@1, 31 VCC (power), 32 COM2 (power), 34 CLKOUT (out), 35 CLKIN, 37 O/PLOW (out), 38 O/PHIGH (out)

## ISO485P
designator IC?, comment Isolated RS-485 Differential Bus Transceiver
OC_FARNELL: unknown; OC_NEWARK: unknown
footprint DIL24-3/12
part A pins: 1 R, 2 RE, 10 NC, 12 A, 13 B, 23 DE, 24 D (out)
part B pins: 3 VCC (power), 22 GND (power)
part C pins: 11 GND@1 (power), 14 GND@2 (power), 15 VCC (power)

## IVC102U
designator IC?, comment Amplifier   Precision Switched Integrator Transimpedance
MPN: IVC102U; OC_FARNELL: 1212427; OC_NEWARK: 03P0868
footprint SO14
pins: 1 AGND (power), 2 IN, 3 -IN, 4 C1, 5 C2, 6 C3, 7 NC, 8 NC@1, 9 V- (power), 10 VOUT (out), 11 S1, 12 S2, 13 DGND (power), 14 V+ (power)

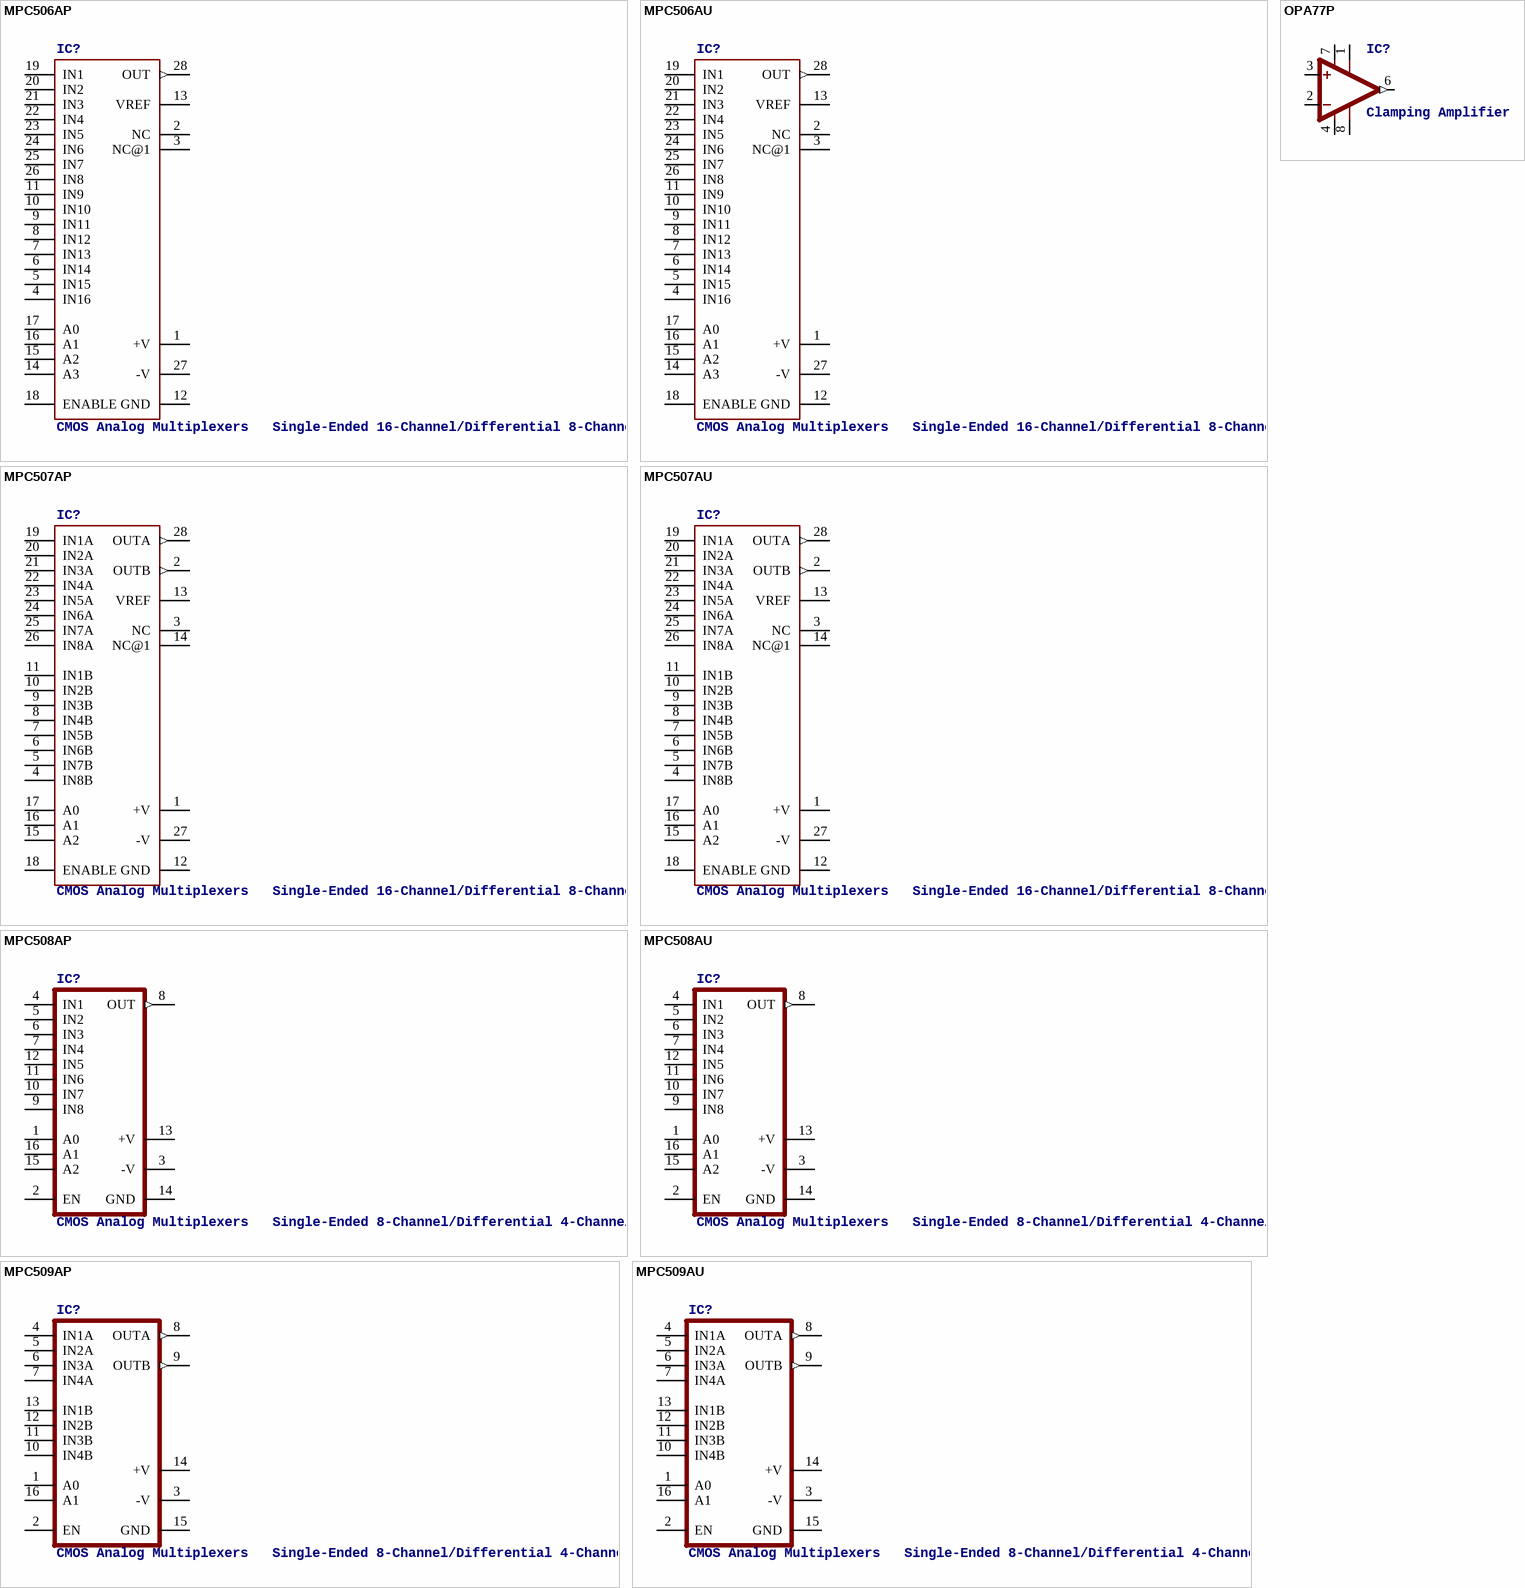
[diagram p15: symbols MPC506AP to OPA77P]

## MPC506AP
designator IC?, comment CMOS Analog Multiplexers   Single-Ended 16-Channel/Differential 8-Channel
MPN: MPC506AP; OC_FARNELL: 1417416; OC_NEWARK: 50R5624
footprint DIL28
pins: 1 +V (power), 2 NC, 3 NC@1, 4 IN16, 5 IN15, 6 IN14, 7 IN13, 8 IN12, 9 IN11, 10 IN10, 11 IN9, 12 GND (power), 13 VREF, 14 A3, 15 A2, 16 A1, 17 A0, 18 ENABLE, 19 IN1, 20 IN2, 21 IN3, 22 IN4, 23 IN5, 24 IN6, 25 IN7, 26 IN8, 27 -V (power), 28 OUT (out)

## MPC506AU
designator IC?, comment CMOS Analog Multiplexers   Single-Ended 16-Channel/Differential 8-Channel
MPN: MPC506AU; MF: TEXAS INSTRUMENTS; OC_FARNELL: unknown; OC_NEWARK: 72K8921
footprint SO28-3
pins: 1 +V (power), 2 NC, 3 NC@1, 4 IN16, 5 IN15, 6 IN14, 7 IN13, 8 IN12, 9 IN11, 10 IN10, 11 IN9, 12 GND (power), 13 VREF, 14 A3, 15 A2, 16 A1, 17 A0, 18 ENABLE, 19 IN1, 20 IN2, 21 IN3, 22 IN4, 23 IN5, 24 IN6, 25 IN7, 26 IN8, 27 -V (power), 28 OUT (out)

## MPC507AP
designator IC?, comment CMOS Analog Multiplexers   Single-Ended 16-Channel/Differential 8-Channel
MPN: MPC507AP; MF: TEXAS INSTRUMENTS; OC_FARNELL: 1648762; OC_NEWARK: 75C3662
footprint DIL28
pins: 1 +V (power), 2 OUTB (out), 3 NC, 4 IN8B, 5 IN7B, 6 IN6B, 7 IN5B, 8 IN4B, 9 IN3B, 10 IN2B, 11 IN1B, 12 GND (power), 13 VREF, 14 NC@1, 15 A2, 16 A1, 17 A0, 18 ENABLE, 19 IN1A, 20 IN2A, 21 IN3A, 22 IN4A, 23 IN5A, 24 IN6A, 25 IN7A, 26 IN8A, 27 -V (power), 28 OUTA (out)

## MPC507AU
designator IC?, comment CMOS Analog Multiplexers   Single-Ended 16-Channel/Differential 8-Channel
MPN: MPC507AU; MF: TEXAS INSTRUMENTS; OC_FARNELL: 1577157; OC_NEWARK: 75C3663
footprint SO28-3
pins: 1 +V (power), 2 OUTB (out), 3 NC, 4 IN8B, 5 IN7B, 6 IN6B, 7 IN5B, 8 IN4B, 9 IN3B, 10 IN2B, 11 IN1B, 12 GND (power), 13 VREF, 14 NC@1, 15 A2, 16 A1, 17 A0, 18 ENABLE, 19 IN1A, 20 IN2A, 21 IN3A, 22 IN4A, 23 IN5A, 24 IN6A, 25 IN7A, 26 IN8A, 27 -V (power), 28 OUTA (out)

## MPC508AP
designator IC?, comment CMOS Analog Multiplexers   Single-Ended 8-Channel/Differential 4-Channell
MPN: MPC508AP; MF: TEXAS INSTRUMENTS; OC_FARNELL: unknown; OC_NEWARK: 96K4520
footprint DIL16
pins: 1 A0, 2 EN, 3 -V (power), 4 IN1, 5 IN2, 6 IN3, 7 IN4, 8 OUT (out), 9 IN8, 10 IN7, 11 IN6, 12 IN5, 13 +V (power), 14 GND (power), 15 A2, 16 A1

## MPC508AU
designator IC?, comment CMOS Analog Multiplexers   Single-Ended 8-Channel/Differential 4-Channell
MPN: MPC508AU; MF: TEXAS INSTRUMENTS; OC_FARNELL: 1206920; OC_NEWARK: 74K3896
footprint SO16-1
pins: 1 A0, 2 EN, 3 -V (power), 4 IN1, 5 IN2, 6 IN3, 7 IN4, 8 OUT (out), 9 IN8, 10 IN7, 11 IN6, 12 IN5, 13 +V (power), 14 GND (power), 15 A2, 16 A1

## MPC509AP
designator IC?, comment CMOS Analog Multiplexers   Single-Ended 8-Channel/Differential 4-Channel
MPN: MPC509AP; MF: TEXAS INSTRUMENT CONNECTORS; OC_FARNELL: 1214449; OC_NEWARK: 75C3667
footprint DIL16
pins: 1 A0, 2 EN, 3 -V (power), 4 IN1A, 5 IN2A, 6 IN3A, 7 IN4A, 8 OUTA (out), 9 OUTB (out), 10 IN4B, 11 IN3B, 12 IN2B, 13 IN1B, 14 +V (power), 15 GND (power), 16 A1

## MPC509AU
designator IC?, comment CMOS Analog Multiplexers   Single-Ended 8-Channel/Differential 4-Channel
MPN: MPC509AUG4; OC_FARNELL: 1206921; OC_NEWARK: 97K5354
footprint SO16-1
pins: 1 A0, 2 EN, 3 -V (power), 4 IN1A, 5 IN2A, 6 IN3A, 7 IN4A, 8 OUTA (out), 9 OUTB (out), 10 IN4B, 11 IN3B, 12 IN2B, 13 IN1B, 14 +V (power), 15 GND (power), 16 A1

## OPA77P
designator IC?, comment Clamping Amplifier
OC_FARNELL: unknown; OC_NEWARK: unknown
footprint DIL08
pins: 1 TRIM1, 2 -IN, 3 +IN, 4 V- (power), 6 OUT (out), 7 V+ (power), 8 TRIM2

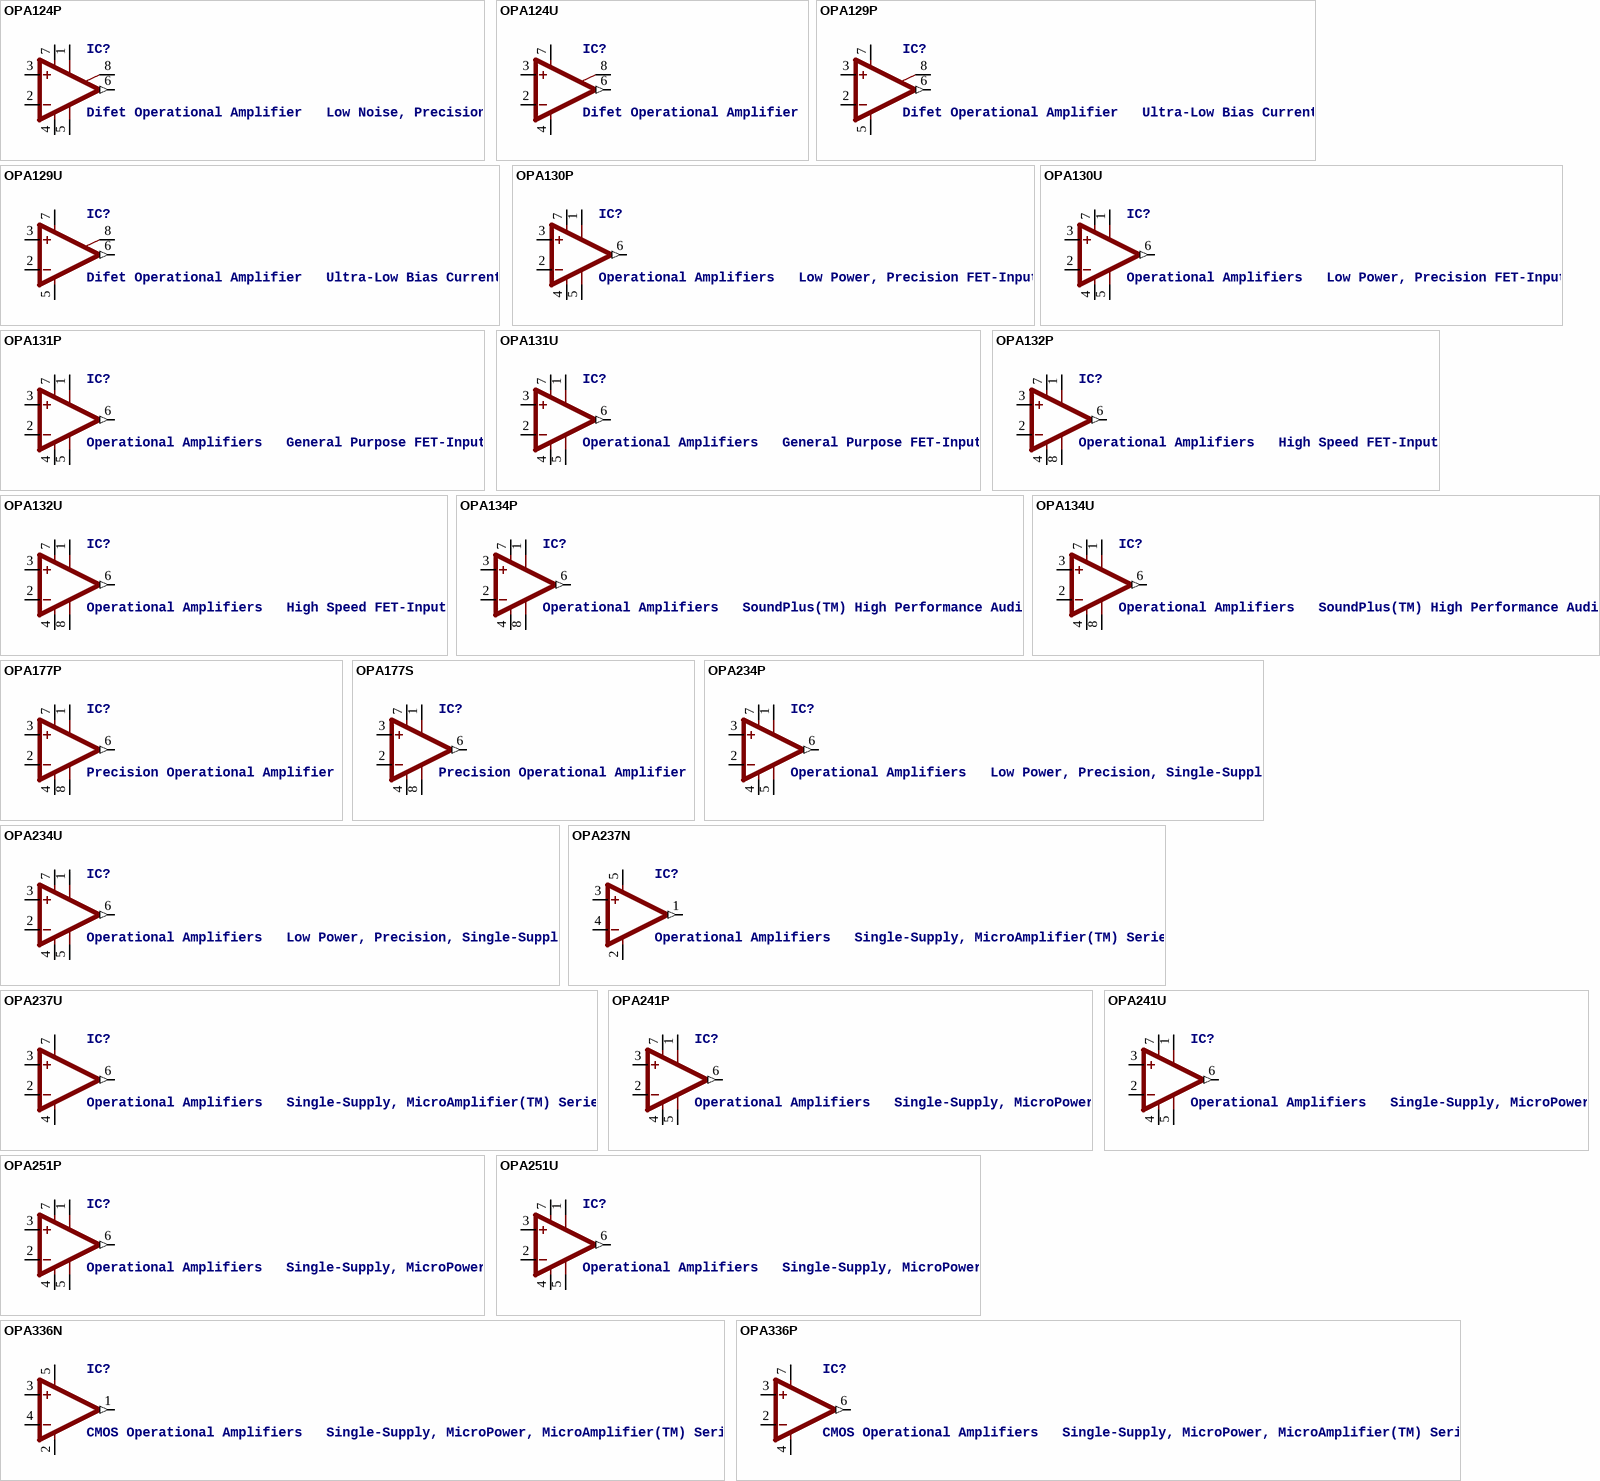
[diagram p16: symbols OPA124P to OPA336P]

## OPA124P
designator IC?, comment Difet Operational Amplifier   Low Noise, Precision
OC_FARNELL: unknown; OC_NEWARK: unknown
footprint DIL08
pins: 1 TRIM1, 2 -IN, 3 +IN, 4 V- (power), 5 TRIM2, 6 OUT (out), 7 V+ (power), 8 SUBS

## OPA124U
designator IC?, comment Difet Operational Amplifier
MPN: OPA124U; MF: TEXAS INSTRUMENTS; OC_FARNELL: 1206923; OC_NEWARK: 80K6002
footprint SO08
pins: 2 -IN, 3 +IN, 4 V- (power), 6 OUT (out), 7 V+ (power), 8 SUBS

## OPA129P
designator IC?, comment Difet Operational Amplifier   Ultra-Low Bias Current
OC_FARNELL: unknown; OC_NEWARK: unknown
footprint DIL08
pins: 2 -IN, 3 +IN, 5 V- (power), 6 OUT (out), 7 V+ (power), 8 SUBS

## OPA129U
designator IC?, comment Difet Operational Amplifier   Ultra-Low Bias Current
MPN: OPA129U; MF: TEXAS INSTRUMENTS; OC_FARNELL: 1206925; OC_NEWARK: 80K6004
footprint SO08
pins: 2 -IN, 3 +IN, 5 V- (power), 6 OUT (out), 7 V+ (power), 8 SUBS

## OPA130P
designator IC?, comment Operational Amplifiers   Low Power, Precision FET-Input
OC_FARNELL: unknown; OC_NEWARK: unknown
footprint DIL08
pins: 1 TRIM1, 2 -IN, 3 +IN, 4 V- (power), 5 TRIM2, 6 OUT (out), 7 V+ (power)

## OPA130U
designator IC?, comment Operational Amplifiers   Low Power, Precision FET-Input
MPN: OPA130UA; MF: TEXAS INSTRUMENTS; OC_FARNELL: 1577774; OC_NEWARK: 80K6006
footprint SO08
pins: 1 TRIM1, 2 -IN, 3 +IN, 4 V- (power), 5 TRIM2, 6 OUT (out), 7 V+ (power)

## OPA131P
designator IC?, comment Operational Amplifiers   General Purpose FET-Input
OC_FARNELL: unknown; OC_NEWARK: unknown
footprint DIL08
pins: 1 TRIM1, 2 -IN, 3 +IN, 4 V- (power), 5 TRIM2, 6 OUT (out), 7 V+ (power)

## OPA131U
designator IC?, comment Operational Amplifiers   General Purpose FET-Input
MPN: OPA131U; MF: TEXAS INSTRUMENT CONNECTORS; OC_FARNELL: 1459547; OC_NEWARK: 75C4591
footprint SO08
pins: 1 TRIM1, 2 -IN, 3 +IN, 4 V- (power), 5 TRIM2, 6 OUT (out), 7 V+ (power)

## OPA132P
designator IC?, comment Operational Amplifiers   High Speed FET-Input
OC_FARNELL: unknown; OC_NEWARK: unknown
footprint DIL08
pins: 1 TRIM1, 2 -IN, 3 +IN, 4 V- (power), 6 OUT (out), 7 V+ (power), 8 TRIM2

## OPA132U
designator IC?, comment Operational Amplifiers   High Speed FET-Input
MPN: OPA132U; MF: TEXAS INSTRUMENTS; OC_FARNELL: 1823332; OC_NEWARK: 80K6008
footprint SO08
pins: 1 TRIM1, 2 -IN, 3 +IN, 4 V- (power), 6 OUT (out), 7 V+ (power), 8 TRIM2

## OPA134P
designator IC?, comment Operational Amplifiers   SoundPlus(TM) High Performance Audio
MPN: OPA134PA; MF: TEXAS INSTRUMENTS; OC_FARNELL: 1335032; OC_NEWARK: 75C4599
footprint DIL08
pins: 1 TRIM1, 2 -IN, 3 +IN, 4 V- (power), 6 OUT (out), 7 V+ (power), 8 TRIM2

## OPA134U
designator IC?, comment Operational Amplifiers   SoundPlus(TM) High Performance Audio
MPN: OPA134UA; MF: TEXAS INSTRUMENTS; OC_FARNELL: 1097514; OC_NEWARK: 80K6009
footprint SO08
pins: 1 TRIM1, 2 -IN, 3 +IN, 4 V- (power), 6 OUT (out), 7 V+ (power), 8 TRIM2

## OPA177P
designator IC?, comment Precision Operational Amplifier
MPN: OPA177GPG4; OC_FARNELL: 1219410; OC_NEWARK: 05M0933
footprint DIL08
pins: 1 TRIM1, 2 -IN, 3 +IN, 4 V- (power), 6 OUT (out), 7 V+ (power), 8 TRIM2

## OPA177S
designator IC?, comment Precision Operational Amplifier
MPN: OPA177GS; MF: TEXAS INSTRUMENTS; OC_FARNELL: 1212431; OC_NEWARK: 35C0218
footprint SO08
pins: 1 TRIM1, 2 -IN, 3 +IN, 4 V- (power), 6 OUT (out), 7 V+ (power), 8 TRIM2

## OPA234P
designator IC?, comment Operational Amplifiers   Low Power, Precision, Single-Supply
OC_FARNELL: unknown; OC_NEWARK: unknown
footprint DIL08
pins: 1 TRIM1, 2 -IN, 3 +IN, 4 V- (power), 5 TRIM2, 6 OUT (out), 7 V+ (power)

## OPA234U
designator IC?, comment Operational Amplifiers   Low Power, Precision, Single-Supply
MPN: OPA234U; MF: TEXAS INSTRUMENT CONNECTORS; OC_FARNELL: 1648695; OC_NEWARK: 75C4693
footprint SO08
pins: 1 TRIM1, 2 -IN, 3 +IN, 4 V- (power), 5 TRIM2, 6 OUT (out), 7 V+ (power)

## OPA237N
designator IC?, comment Operational Amplifiers   Single-Supply, MicroAmplifier(TM) Series
MPN: OPA237NA/250; MF: TEXAS INSTRUMENTS; OC_FARNELL: 4625298; OC_NEWARK: 35C1874
footprint SOT23-5
pins: 1 OUT (out), 2 V- (power), 3 +IN, 4 -IN, 5 V+ (power)

## OPA237U
designator IC?, comment Operational Amplifiers   Single-Supply, MicroAmplifier(TM) Series
MPN: OPA237UA; MF: TEXAS INSTRUMENT CONNECTORS; OC_FARNELL: 1800507; OC_NEWARK: 04M4584
footprint SO08
pins: 2 -IN, 3 +IN, 4 V- (power), 6 OUT (out), 7 V+ (power)

## OPA241P
designator IC?, comment Operational Amplifiers   Single-Supply, MicroPower
MPN: OPA241PA; MF: TEXAS INSTRUMENT CONNECTORS; OC_FARNELL: 1097411; OC_NEWARK: 80K6022
footprint DIL08
pins: 1 TRIM1, 2 -IN, 3 +IN, 4 V- (power), 5 TRIM2, 6 OUT (out), 7 V+ (power)

## OPA241U
designator IC?, comment Operational Amplifiers   Single-Supply, MicroPower
MPN: OPA241UA; MF: TEXAS INSTRUMENTS; OC_FARNELL: 1648699; OC_NEWARK: 75C4749
footprint SO08
pins: 1 TRIM1, 2 -IN, 3 +IN, 4 V- (power), 5 TRIM2, 6 OUT (out), 7 V+ (power)

## OPA251P
designator IC?, comment Operational Amplifiers   Single-Supply, MicroPower
MPN: OPA251PA; MF: TEXAS INSTRUMENT CONNECTORS; OC_FARNELL: 1754989; OC_NEWARK: 75C4754
footprint DIL08
pins: 1 TRIM1, 2 -IN, 3 +IN, 4 V- (power), 5 TRIM2, 6 OUT (out), 7 V+ (power)

## OPA251U
designator IC?, comment Operational Amplifiers   Single-Supply, MicroPower
MPN: OPA251UA; MF: TEXAS INSTRUMENT CONNECTORS; OC_FARNELL: unknown; OC_NEWARK: 75C4755
footprint SO08
pins: 1 TRIM1, 2 -IN, 3 +IN, 4 V- (power), 5 TRIM2, 6 OUT (out), 7 V+ (power)

## OPA336N
designator IC?, comment CMOS Operational Amplifiers   Single-Supply, MicroPower, MicroAmplifier(TM) Series
MPN: OPA336NA; OC_FARNELL: 1212297; OC_NEWARK: 01M8405
footprint SOT23-5
pins: 1 OUT (out), 2 V- (power), 3 +IN, 4 -IN, 5 V+ (power)

## OPA336P
designator IC?, comment CMOS Operational Amplifiers   Single-Supply, MicroPower, MicroAmplifier(TM) Series
OC_FARNELL: unknown; OC_NEWARK: unknown
footprint DIL08
pins: 2 -IN, 3 +IN, 4 V- (power), 6 OUT (out), 7 V+ (power)

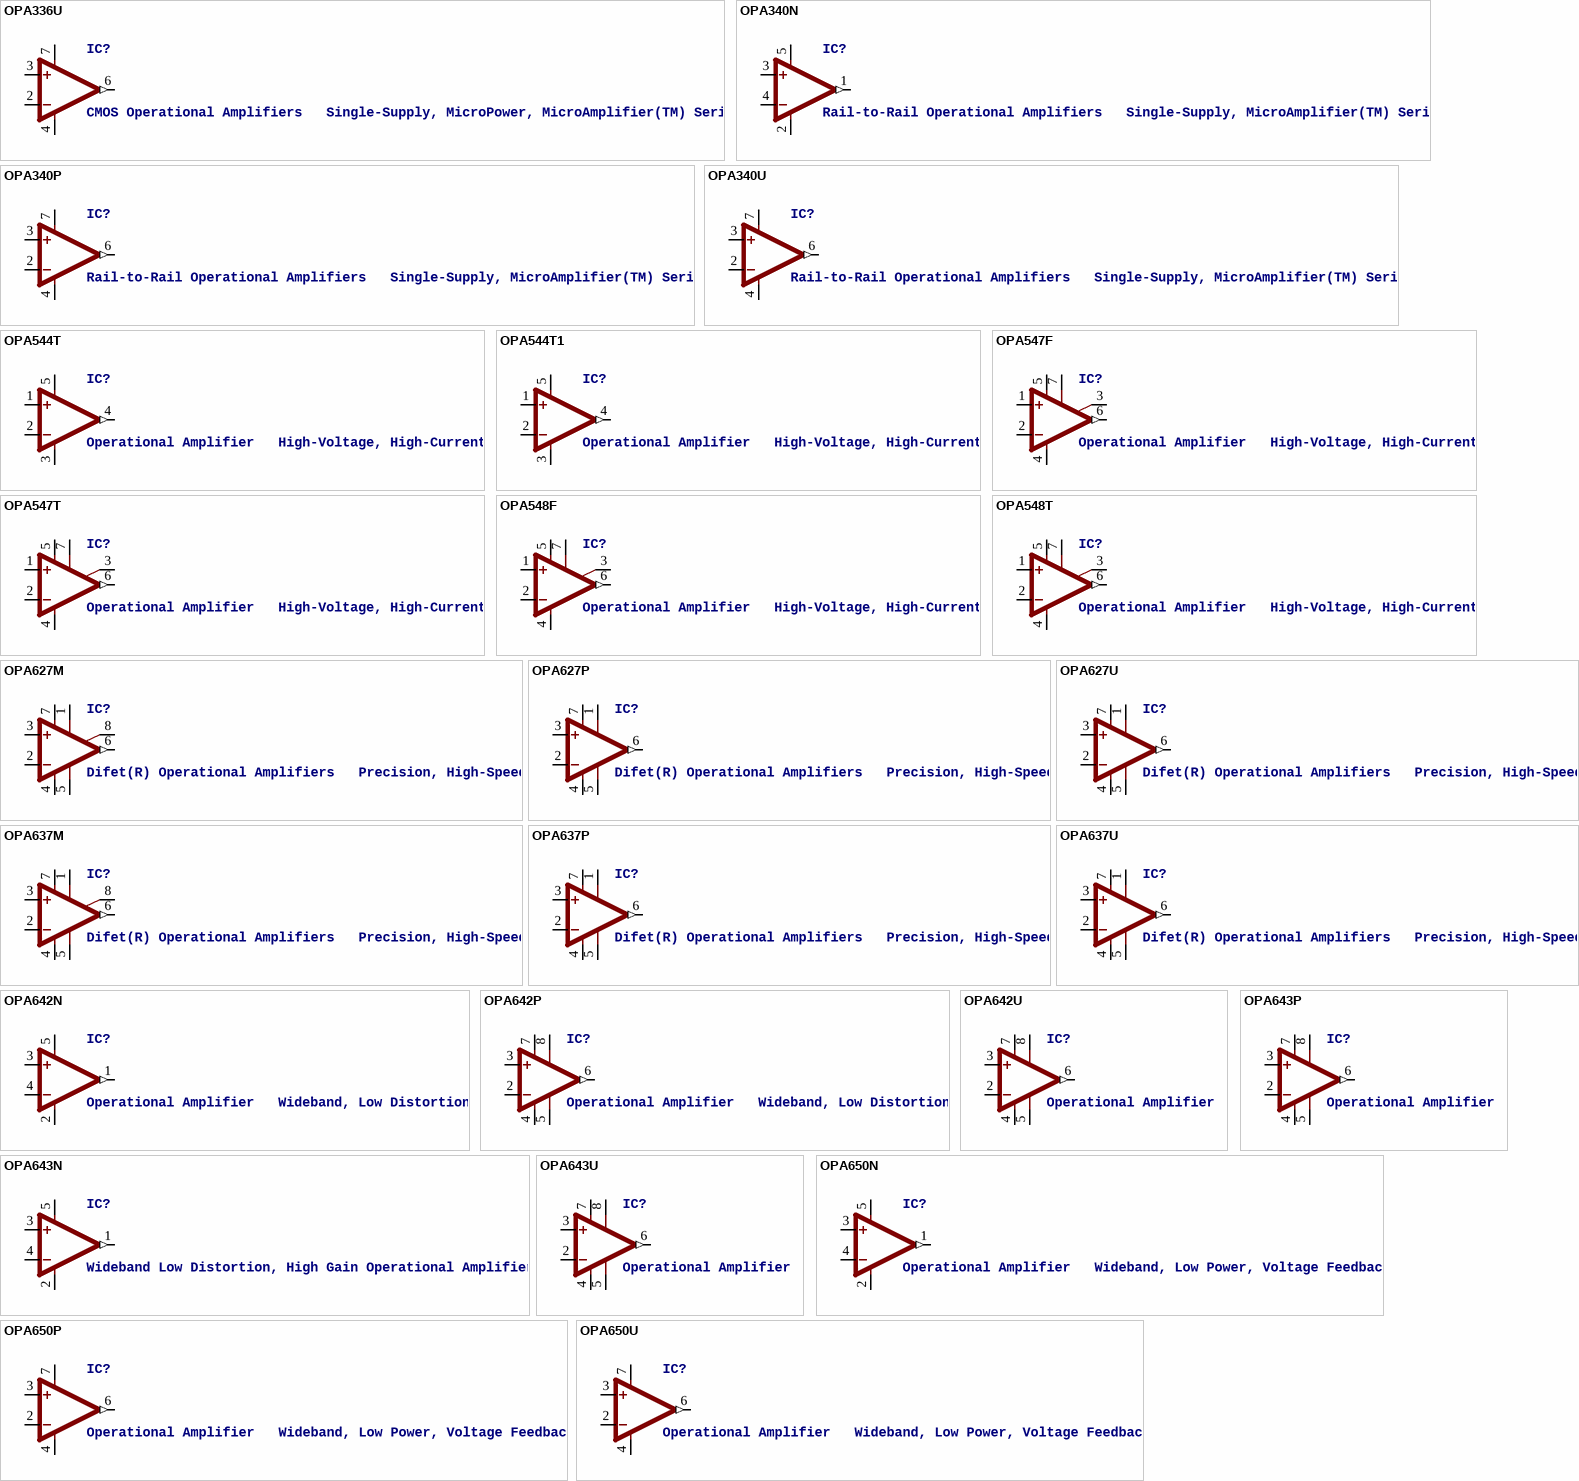
[diagram p17: symbols OPA336U to OPA650U]

## OPA336U
designator IC?, comment CMOS Operational Amplifiers   Single-Supply, MicroPower, MicroAmplifier(TM) Series
MPN: OPA336UA; MF: TEXAS INSTRUMENT CONNECTORS; OC_FARNELL: 1459587; OC_NEWARK: 35C1888
footprint SO08
pins: 2 -IN, 3 +IN, 4 V- (power), 6 OUT (out), 7 V+ (power)

## OPA340N
designator IC?, comment Rail-to-Rail Operational Amplifiers   Single-Supply, MicroAmplifier(TM) Series
MPN: OPA340NA/3KG4; OC_FARNELL: 1234805; OC_NEWARK: 13M5177
footprint SOT23-5
pins: 1 OUT (out), 2 V- (power), 3 +IN, 4 -IN, 5 V+ (power)

## OPA340P
designator IC?, comment Rail-to-Rail Operational Amplifiers   Single-Supply, MicroAmplifier(TM) Series
MPN: OPA340PA; OC_FARNELL: 1097413; OC_NEWARK: 97K6826
footprint DIL08
pins: 2 -IN, 3 +IN, 4 V- (power), 6 OUT (out), 7 V+ (power)

## OPA340U
designator IC?, comment Rail-to-Rail Operational Amplifiers   Single-Supply, MicroAmplifier(TM) Series
MPN: OPA340UA; OC_FARNELL: 1106196; OC_NEWARK: 24M5449
footprint SO08
pins: 2 -IN, 3 +IN, 4 V- (power), 6 OUT (out), 7 V+ (power)

## OPA544T
designator IC?, comment Operational Amplifier   High-Voltage, High-Current
MPN: OPA544T; MF: TEXAS INSTRUMENTS; OC_FARNELL: 1097575; OC_NEWARK: 36K2005
footprint TO220-G5
pins: 1 +IN, 2 -IN, 3 V- (power), 4 OUT (out), 5 V+ (power)

## OPA544T1
designator IC?, comment Operational Amplifier   High-Voltage, High-Current
MPN: OPA544T; MF: TEXAS INSTRUMENTS; OC_FARNELL: 1097575; OC_NEWARK: 36K2005
footprint TO220-5
pins: 1 +IN, 2 -IN, 3 V- (power), 4 OUT (out), 5 V+ (power)

## OPA547F
designator IC?, comment Operational Amplifier   High-Voltage, High-Current
MPN: OPA547FKTWT..; OC_FARNELL: 1648714; OC_NEWARK: 80P7372
footprint DD-7
pins: 1 +IN, 2 -IN, 3 ILIM, 4 V- (power), 5 V+ (power), 6 OUT (out), 7 E/S

## OPA547T
designator IC?, comment Operational Amplifier   High-Voltage, High-Current
MPN: OPA547T; MF: TEXAS INSTRUMENTS; OC_FARNELL: 1564871; OC_NEWARK: 62K3461
footprint TO220-7
pins: 1 +IN, 2 -IN, 3 ILIM, 4 V- (power), 5 V+ (power), 6 OUT (out), 7 E/S

## OPA548F
designator IC?, comment Operational Amplifier   High-Voltage, High-Current
MPN: OPA548FKTWTG3; OC_FARNELL: 1234750; OC_NEWARK: 80K2676
footprint DD-7
pins: 1 +IN, 2 -IN, 3 ILIM, 4 V- (power), 5 V+ (power), 6 OUT (out), 7 E/S

## OPA548T
designator IC?, comment Operational Amplifier   High-Voltage, High-Current
MPN: OPA548T; MF: TEXAS INSTRUMENTS; OC_FARNELL: 1564885; OC_NEWARK: 69K2680
footprint TO220-7
pins: 1 +IN, 2 -IN, 3 ILIM, 4 V- (power), 5 V+ (power), 6 OUT (out), 7 E/S

## OPA627M
designator IC?, comment Difet(R) Operational Amplifiers   Precision, High-Speed
MPN: OPA627AM; MF: TEXAS INSTRUMENT CONNECTORS; OC_FARNELL: 1459637; OC_NEWARK: 72K7290
footprint TO99
pins: 1 TRIM1, 2 -IN, 3 +IN, 4 V- (power), 5 TRIM2, 6 OUT (out), 7 V+ (power), 8 CASE

## OPA627P
designator IC?, comment Difet(R) Operational Amplifiers   Precision, High-Speed
MPN: OPA627BP; MF: TEXAS INSTRUMENTS; OC_FARNELL: 1212318; OC_NEWARK: 35C1918
footprint DIL08
pins: 1 TRIM1, 2 -IN, 3 +IN, 4 V- (power), 5 TRIM2, 6 OUT (out), 7 V+ (power)

## OPA627U
designator IC?, comment Difet(R) Operational Amplifiers   Precision, High-Speed
MPN: OPA627AU; MF: TEXAS INSTRUMENTS; OC_FARNELL: 1207067; OC_NEWARK: 30C4516
footprint SO08
pins: 1 TRIM1, 2 -IN, 3 +IN, 4 V- (power), 5 TRIM2, 6 OUT (out), 7 V+ (power)

## OPA637M
designator IC?, comment Difet(R) Operational Amplifiers   Precision, High-Speed
MPN: OPA637AM; OC_FARNELL: 1459640; OC_NEWARK: 61M8069
footprint TO99
pins: 1 TRIM1, 2 -IN, 3 +IN, 4 V- (power), 5 TRIM2, 6 OUT (out), 7 V+ (power), 8 CASE

## OPA637P
designator IC?, comment Difet(R) Operational Amplifiers   Precision, High-Speed
MPN: OPA637AP.; MF: TEXAS INSTRUMENTS; OC_FARNELL: 1263170; OC_NEWARK: 75C5108
footprint DIL08
pins: 1 TRIM1, 2 -IN, 3 +IN, 4 V- (power), 5 TRIM2, 6 OUT (out), 7 V+ (power)

## OPA637U
designator IC?, comment Difet(R) Operational Amplifiers   Precision, High-Speed
MPN: OPA637AU; MF: TEXAS INSTRUMENTS; OC_FARNELL: 1544014; OC_NEWARK: 80K6031
footprint SO08
pins: 1 TRIM1, 2 -IN, 3 +IN, 4 V- (power), 5 TRIM2, 6 OUT (out), 7 V+ (power)

## OPA642N
designator IC?, comment Operational Amplifier   Wideband, Low Distortion
OC_FARNELL: unknown; OC_NEWARK: unknown
footprint SOT23-5
pins: 1 OUT (out), 2 V- (power), 3 +IN, 4 -IN, 5 V+ (power)

## OPA642P
designator IC?, comment Operational Amplifier   Wideband, Low Distortion
MPN: AD9631ANZ; OC_FARNELL: unknown; OC_NEWARK: 19M1012
footprint DIL08
pins: 2 -IN, 3 +IN, 4 -VS1 (power), 5 -VS2 (power), 6 OUT (out), 7 +VS1 (power), 8 +VS2 (power)

## OPA642U
designator IC?, comment Operational Amplifier
MPN: AD9631ARZ; OC_FARNELL: 1319480; OC_NEWARK: 19M8943
footprint SO08
pins: 2 -IN, 3 +IN, 4 -VS1 (power), 5 -VS2 (power), 6 OUT (out), 7 +VS1 (power), 8 +VS2 (power)

## OPA643N
designator IC?, comment Wideband Low Distortion, High Gain Operational Amplifier
OC_FARNELL: unknown; OC_NEWARK: unknown
footprint SOT23-5
pins: 1 OUT (out), 2 V- (power), 3 +IN, 4 -IN, 5 V+ (power)

## OPA643P
designator IC?, comment Operational Amplifier
OC_FARNELL: unknown; OC_NEWARK: unknown
footprint DIL08
pins: 2 -IN, 3 +IN, 4 -VS1 (power), 5 -VS2 (power), 6 OUT (out), 7 +VS1 (power), 8 +VS2 (power)

## OPA643U
designator IC?, comment Operational Amplifier
MPN: OPA643UB; MF: TEXAS INSTRUMENTS; OC_FARNELL: unknown; OC_NEWARK: 75C5127
footprint SO08
pins: 2 -IN, 3 +IN, 4 -VS1 (power), 5 -VS2 (power), 6 OUT (out), 7 +VS1 (power), 8 +VS2 (power)

## OPA650N
designator IC?, comment Operational Amplifier   Wideband, Low Power, Voltage Feedback
OC_FARNELL: unknown; OC_NEWARK: unknown
footprint SOT23-5
pins: 1 OUT (out), 2 V- (power), 3 +IN, 4 -IN, 5 V+ (power)

## OPA650P
designator IC?, comment Operational Amplifier   Wideband, Low Power, Voltage Feedback
OC_FARNELL: unknown; OC_NEWARK: unknown
footprint DIL08
pins: 2 -IN, 3 +IN, 4 V- (power), 6 OUT (out), 7 V+ (power)

## OPA650U
designator IC?, comment Operational Amplifier   Wideband, Low Power, Voltage Feedback
OC_FARNELL: unknown; OC_NEWARK: unknown
footprint SO08
pins: 2 -IN, 3 +IN, 4 V- (power), 6 OUT (out), 7 V+ (power)

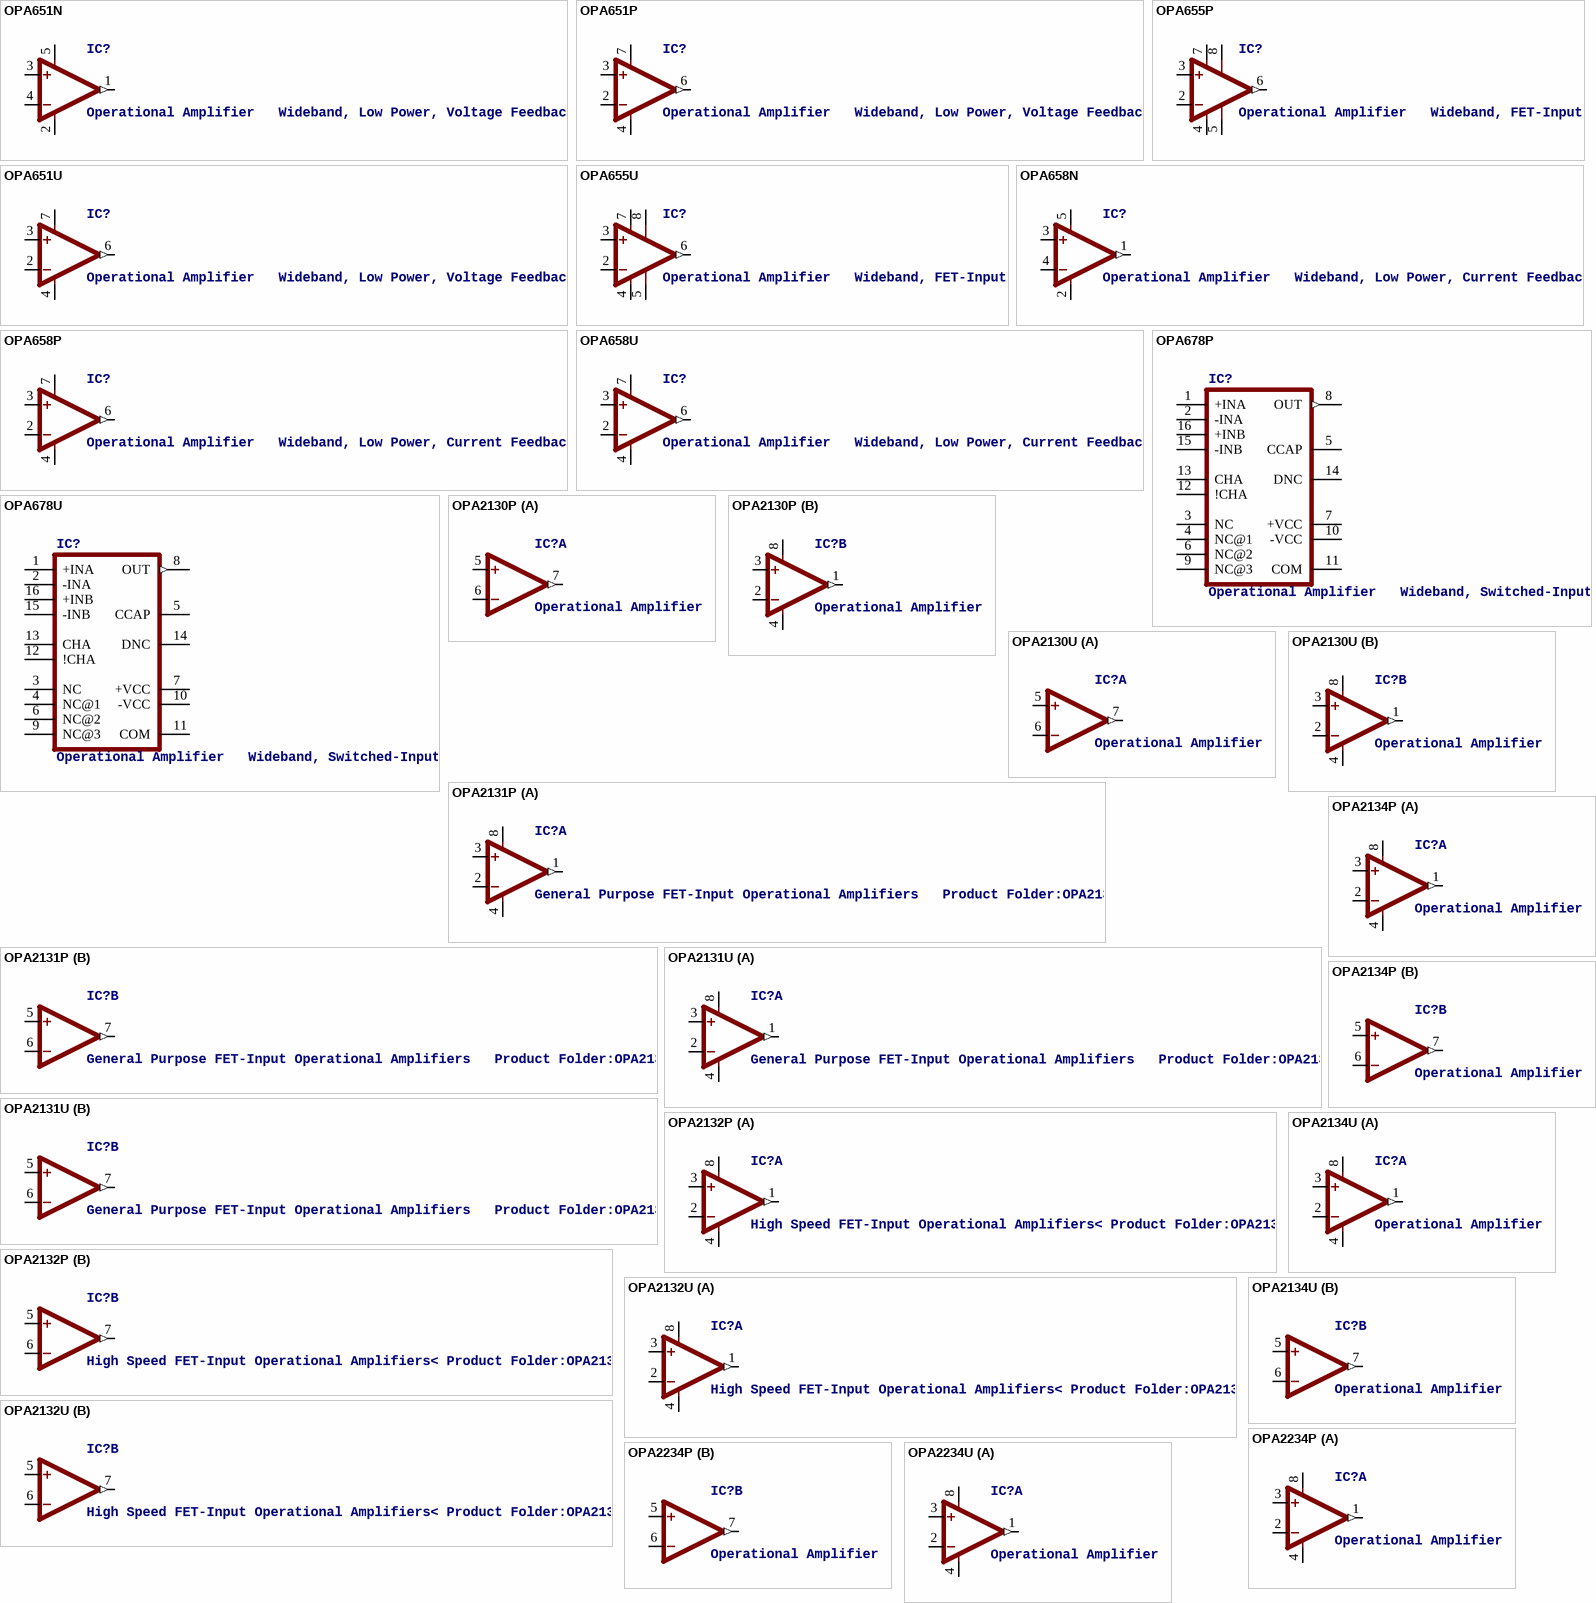
[diagram p18: symbols OPA651N to OPA2234U]

## OPA651N
designator IC?, comment Operational Amplifier   Wideband, Low Power, Voltage Feedback
OC_FARNELL: unknown; OC_NEWARK: unknown
footprint SOT23-5
pins: 1 OUT (out), 2 V- (power), 3 +IN, 4 -IN, 5 V+ (power)

## OPA651P
designator IC?, comment Operational Amplifier   Wideband, Low Power, Voltage Feedback
OC_FARNELL: unknown; OC_NEWARK: unknown
footprint DIL08
pins: 2 -IN, 3 +IN, 4 V- (power), 6 OUT (out), 7 V+ (power)

## OPA651U
designator IC?, comment Operational Amplifier   Wideband, Low Power, Voltage Feedback
OC_FARNELL: unknown; OC_NEWARK: unknown
footprint SO08
pins: 2 -IN, 3 +IN, 4 V- (power), 6 OUT (out), 7 V+ (power)

## OPA655P
designator IC?, comment Operational Amplifier   Wideband, FET-Input
MPN: OPA655P; OC_FARNELL: unknown; OC_NEWARK: 75C5130
footprint DIL08
pins: 2 -IN, 3 +IN, 4 -VS1 (power), 5 -VS2 (power), 6 OUT (out), 7 +VS1 (power), 8 +VS2 (power)

## OPA655U
designator IC?, comment Operational Amplifier   Wideband, FET-Input
OC_FARNELL: unknown; OC_NEWARK: unknown
footprint SO08
pins: 2 -IN, 3 +IN, 4 -VS1 (power), 5 -VS2 (power), 6 OUT (out), 7 +VS1 (power), 8 +VS2 (power)

## OPA658N
designator IC?, comment Operational Amplifier   Wideband, Low Power, Current Feedback
OC_FARNELL: unknown; OC_NEWARK: unknown
footprint SOT23-5
pins: 1 OUT (out), 2 V- (power), 3 +IN, 4 -IN, 5 V+ (power)

## OPA658P
designator IC?, comment Operational Amplifier   Wideband, Low Power, Current Feedback
MPN: AD8001ANZ; OC_FARNELL: 9605304; OC_NEWARK: 19M0911
footprint DIL08
pins: 2 -IN, 3 +IN, 4 V- (power), 6 OUT (out), 7 V+ (power)

## OPA658U
designator IC?, comment Operational Amplifier   Wideband, Low Power, Current Feedback
MPN: AD8001ARZ; OC_FARNELL: unknown; OC_NEWARK: 19M0912
footprint SO08
pins: 2 -IN, 3 +IN, 4 V- (power), 6 OUT (out), 7 V+ (power)

## OPA678P
designator IC?, comment Operational Amplifier   Wideband, Switched-Input
OC_FARNELL: unknown; OC_NEWARK: unknown
footprint DIL16
pins: 1 +INA, 2 -INA, 3 NC, 4 NC@1, 5 CCAP, 6 NC@2, 7 +VCC (power), 8 OUT (out), 9 NC@3, 10 -VCC (power), 11 COM (power), 12 !CHA, 13 CHA, 14 DNC, 15 -INB, 16 +INB

## OPA678U
designator IC?, comment Operational Amplifier   Wideband, Switched-Input
OC_FARNELL: unknown; OC_NEWARK: unknown
footprint SO16-1
pins: 1 +INA, 2 -INA, 3 NC, 4 NC@1, 5 CCAP, 6 NC@2, 7 +VCC (power), 8 OUT (out), 9 NC@3, 10 -VCC (power), 11 COM (power), 12 !CHA, 13 CHA, 14 DNC, 15 -INB, 16 +INB

## OPA2130P
designator IC?, comment Operational Amplifier
OC_FARNELL: unknown; OC_NEWARK: unknown
footprint DIL08
part A pins: 5 +IN, 6 -IN, 7 OUT (out)
part B pins: 1 OUT (out), 2 -IN, 3 +IN, 4 V- (power), 8 V+ (power)

## OPA2130U
designator IC?, comment Operational Amplifier
MPN: OPA2130UA; MF: TEXAS INSTRUMENTS; OC_FARNELL: 1459554; OC_NEWARK: 35C1841
footprint SO08
part A pins: 5 +IN, 6 -IN, 7 OUT (out)
part B pins: 1 OUT (out), 2 -IN, 3 +IN, 4 V- (power), 8 V+ (power)

## OPA2131P
designator IC?, comment General Purpose FET-Input Operational Amplifiers   Product Folder:OPA2131
OC_FARNELL: unknown; OC_NEWARK: unknown
footprint DIL08
part A pins: 1 OUT (out), 2 -IN, 3 +IN, 4 V- (power), 8 V+ (power)
part B pins: 5 +IN, 6 -IN, 7 OUT (out)

## OPA2131U
designator IC?, comment General Purpose FET-Input Operational Amplifiers   Product Folder:OPA2131
MPN: OPA2131UJ/2K5; MF: TEXAS INSTRUMENT CONNECTORS; OC_FARNELL: 1575488; OC_NEWARK: 75C4620
footprint SO08
part A pins: 1 OUT (out), 2 -IN, 3 +IN, 4 V- (power), 8 V+ (power)
part B pins: 5 +IN, 6 -IN, 7 OUT (out)

## OPA2132P
designator IC?, comment High Speed FET-Input Operational Amplifiers< Product Folder:OPA2132
MPN: OPA2132P; OC_FARNELL: 1212432; OC_NEWARK: 47P7461
footprint DIL08
part A pins: 1 OUT (out), 2 -IN, 3 +IN, 4 V- (power), 8 V+ (power)
part B pins: 5 +IN, 6 -IN, 7 OUT (out)

## OPA2132U
designator IC?, comment High Speed FET-Input Operational Amplifiers< Product Folder:OPA2132
MPN: OPA2132U; MF: TEXAS INSTRUMENTS; OC_FARNELL: 1206934; OC_NEWARK: 80K6015
footprint SO08
part A pins: 1 OUT (out), 2 -IN, 3 +IN, 4 V- (power), 8 V+ (power)
part B pins: 5 +IN, 6 -IN, 7 OUT (out)

## OPA2134P
designator IC?, comment Operational Amplifier
MPN: OPA2134PA; MF: TEXAS INSTRUMENTS; OC_FARNELL: 1097574; OC_NEWARK: 74K3897
footprint DIL08
part A pins: 1 OUT (out), 2 -IN, 3 +IN, 4 V- (power), 8 V+ (power)
part B pins: 5 +IN, 6 -IN, 7 OUT (out)

## OPA2134U
designator IC?, comment Operational Amplifier
MPN: OPA2134UA; MF: TEXAS INSTRUMENTS; OC_FARNELL: 1206935; OC_NEWARK: 35C1847
footprint SO08
part A pins: 1 OUT (out), 2 -IN, 3 +IN, 4 V- (power), 8 V+ (power)
part B pins: 5 +IN, 6 -IN, 7 OUT (out)

## OPA2234P
designator IC?, comment Operational Amplifier
OC_FARNELL: unknown; OC_NEWARK: unknown
footprint DIL08
part A pins: 1 OUT (out), 2 -IN, 3 +IN, 4 V- (power), 8 V+ (power)
part B pins: 5 +IN, 6 -IN, 7 OUT (out)

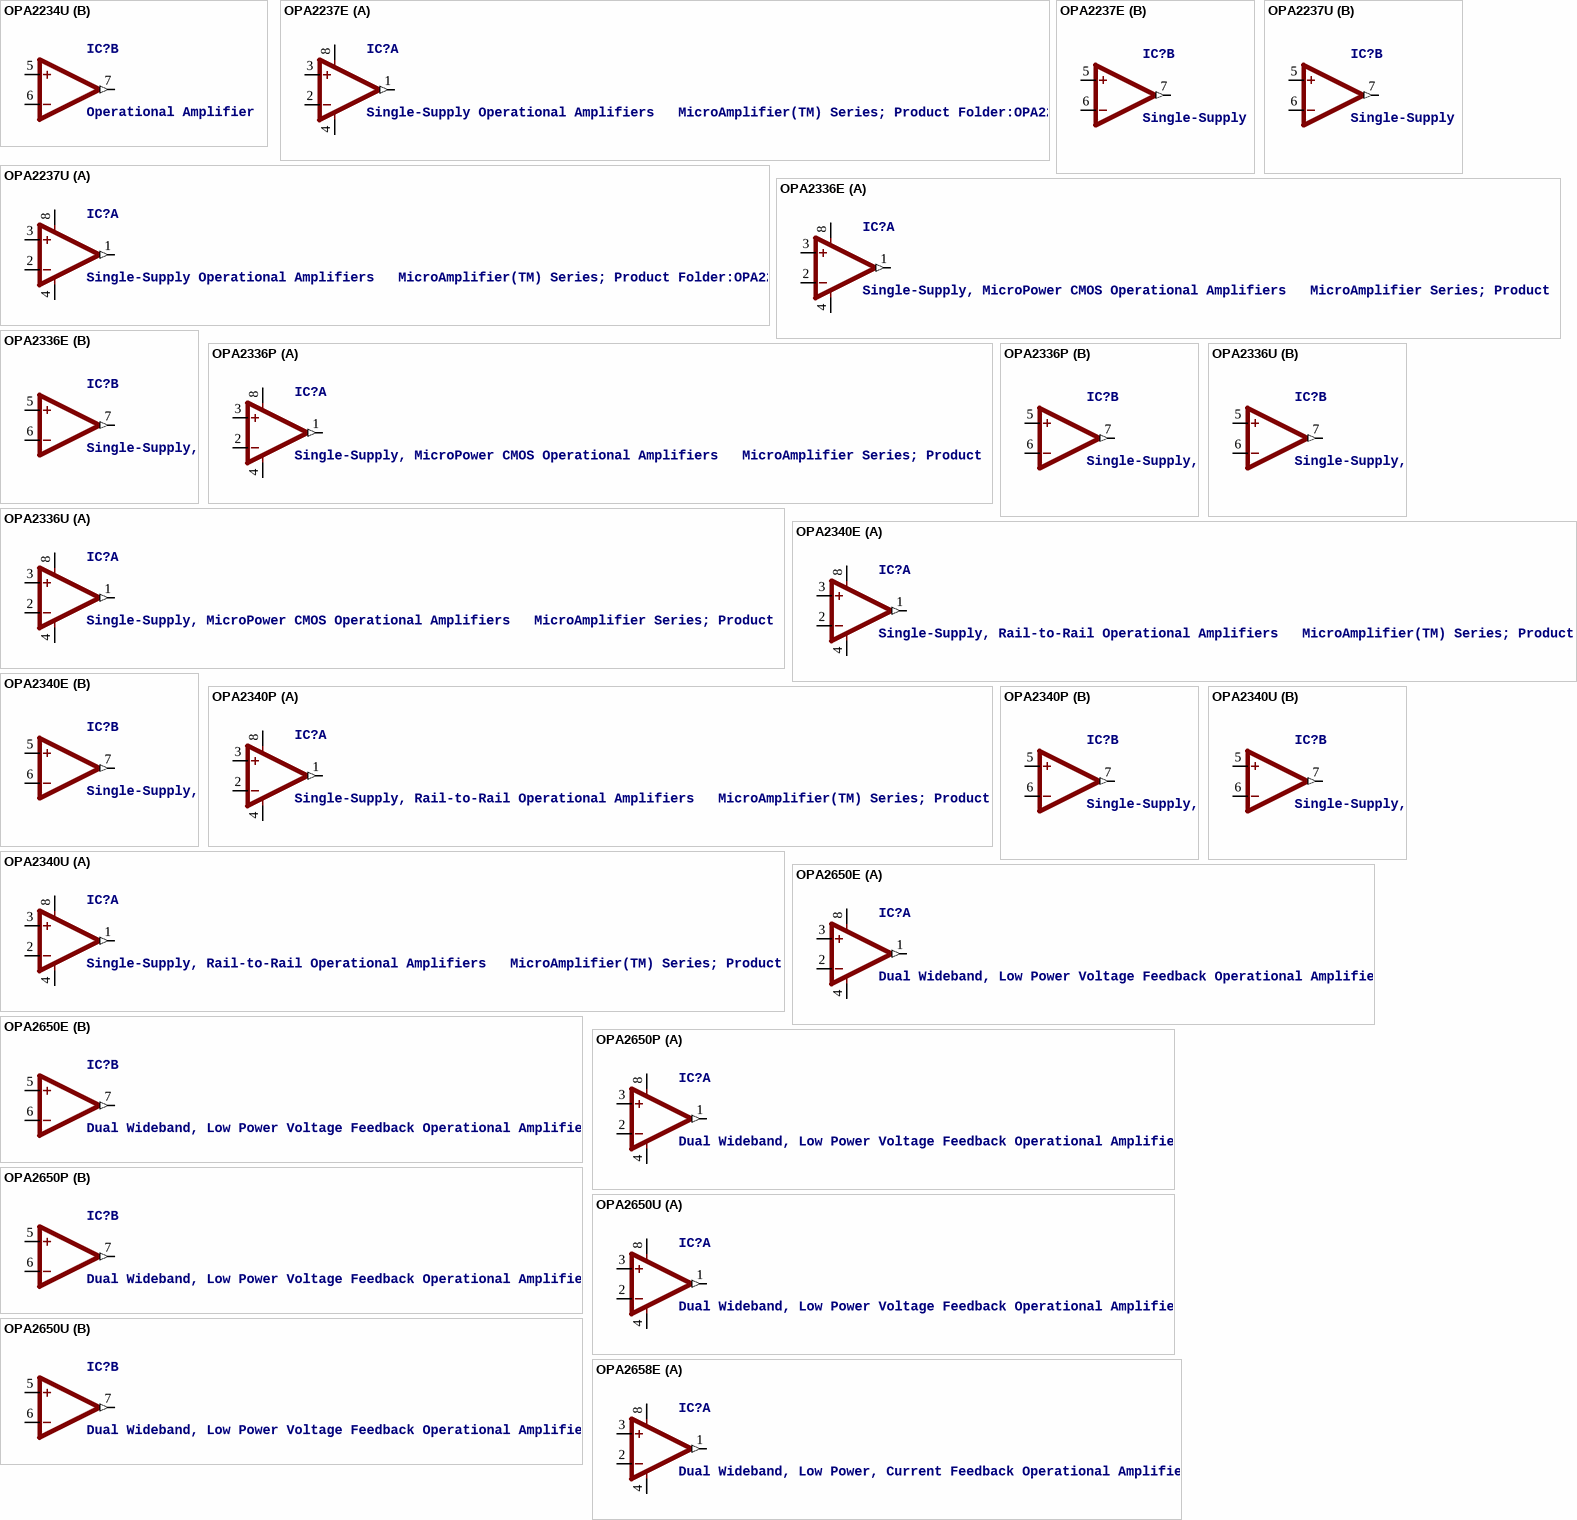
[diagram p19: symbols OPA2234U to OPA2658E]

## OPA2234U
designator IC?, comment Operational Amplifier
MPN: OPA2234U; MF: TEXAS INSTRUMENTS; OC_FARNELL: 1212441; OC_NEWARK: 96K4523
footprint SO08
part A pins: 1 OUT (out), 2 -IN, 3 +IN, 4 V- (power), 8 V+ (power)
part B pins: 5 +IN, 6 -IN, 7 OUT (out)

## OPA2237E
designator IC?, comment Single-Supply Operational Amplifiers   MicroAmplifier(TM) Series; Product Folder:OPA2237
MPN: OPA2237EA/250; MF: TEXAS INSTRUMENTS; OC_FARNELL: 1470365; OC_NEWARK: 35C1853
footprint MSOP08
part A pins: 1 OUT (out), 2 -IN, 3 +IN, 4 V- (power), 8 V+ (power)
part B pins: 5 +IN, 6 -IN, 7 OUT (out)

## OPA2237U
designator IC?, comment Single-Supply Operational Amplifiers   MicroAmplifier(TM) Series; Product Folder:OPA2237
MPN: OPA2237UA; MF: TEXAS INSTRUMENTS; OC_FARNELL: 1388075; OC_NEWARK: 80K6018
footprint SO08
part A pins: 1 OUT (out), 2 -IN, 3 +IN, 4 V- (power), 8 V+ (power)
part B pins: 5 +IN, 6 -IN, 7 OUT (out)

## OPA2336E
designator IC?, comment Single-Supply, MicroPower CMOS Operational Amplifiers   MicroAmplifier Series; Product Folder:OPA2336,
MPN: OPA2336E/250; MF: TEXAS INSTRUMENTS; OC_FARNELL: 1295989; OC_NEWARK: 74K3899
footprint MSOP08
part A pins: 1 OUT (out), 2 -IN, 3 +IN, 4 V- (power), 8 V+ (power)
part B pins: 5 +IN, 6 -IN, 7 OUT (out)

## OPA2336P
designator IC?, comment Single-Supply, MicroPower CMOS Operational Amplifiers   MicroAmplifier Series; Product Folder:OPA2336,
MPN: OPA2336PA.; OC_FARNELL: 1097396; OC_NEWARK: 26M1908
footprint DIL08
part A pins: 1 OUT (out), 2 -IN, 3 +IN, 4 V- (power), 8 V+ (power)
part B pins: 5 +IN, 6 -IN, 7 OUT (out)

## OPA2336U
designator IC?, comment Single-Supply, MicroPower CMOS Operational Amplifiers   MicroAmplifier Series; Product Folder:OPA2336,
MPN: OPA2336UA; OC_FARNELL: 1106183; OC_NEWARK: 24M5438
footprint SO08
part A pins: 1 OUT (out), 2 -IN, 3 +IN, 4 V- (power), 8 V+ (power)
part B pins: 5 +IN, 6 -IN, 7 OUT (out)

## OPA2340E
designator IC?, comment Single-Supply, Rail-to-Rail Operational Amplifiers   MicroAmplifier(TM) Series; Product Folder:OPA2340
MPN: OPA2340EA/250; MF: TEXAS INSTRUMENTS; OC_FARNELL: 1101540; OC_NEWARK: 36K7580
footprint MSOP08
part A pins: 1 OUT (out), 2 -IN, 3 +IN, 4 V- (power), 8 V+ (power)
part B pins: 5 +IN, 6 -IN, 7 OUT (out)

## OPA2340P
designator IC?, comment Single-Supply, Rail-to-Rail Operational Amplifiers   MicroAmplifier(TM) Series; Product Folder:OPA2340
MPN: OPA2340PA; MF: TEXAS INSTRUMENTS; OC_FARNELL: 1129252; OC_NEWARK: 62K3460
footprint DIL08
part A pins: 1 OUT (out), 2 -IN, 3 +IN, 4 V- (power), 8 V+ (power)
part B pins: 5 +IN, 6 -IN, 7 OUT (out)

## OPA2340U
designator IC?, comment Single-Supply, Rail-to-Rail Operational Amplifiers   MicroAmplifier(TM) Series; Product Folder:OPA2340
MPN: OPA2340UA; MF: TEXAS INSTRUMENTS; OC_FARNELL: 1101541; OC_NEWARK: 36K7581
footprint SO08
part A pins: 1 OUT (out), 2 -IN, 3 +IN, 4 V- (power), 8 V+ (power)
part B pins: 5 +IN, 6 -IN, 7 OUT (out)

## OPA2650E
designator IC?, comment Dual Wideband, Low Power Voltage Feedback Operational Amplifier
OC_FARNELL: unknown; OC_NEWARK: unknown
footprint MSOP08
part A pins: 1 OUT (out), 2 -IN, 3 +IN, 4 V- (power), 8 V+ (power)
part B pins: 5 +IN, 6 -IN, 7 OUT (out)

## OPA2650P
designator IC?, comment Dual Wideband, Low Power Voltage Feedback Operational Amplifier
MPN: AD8056ANZ; OC_FARNELL: 1079308; OC_NEWARK: 19M0925
footprint DIL08
part A pins: 1 OUT (out), 2 -IN, 3 +IN, 4 V- (power), 8 V+ (power)
part B pins: 5 +IN, 6 -IN, 7 OUT (out)

## OPA2650U
designator IC?, comment Dual Wideband, Low Power Voltage Feedback Operational Amplifier
MPN: AD8056ARMZ; MF: ALTERA CORPORATION; OC_FARNELL: 1424046; OC_NEWARK: 59K6306
footprint SO08
part A pins: 1 OUT (out), 2 -IN, 3 +IN, 4 V- (power), 8 V+ (power)
part B pins: 5 +IN, 6 -IN, 7 OUT (out)

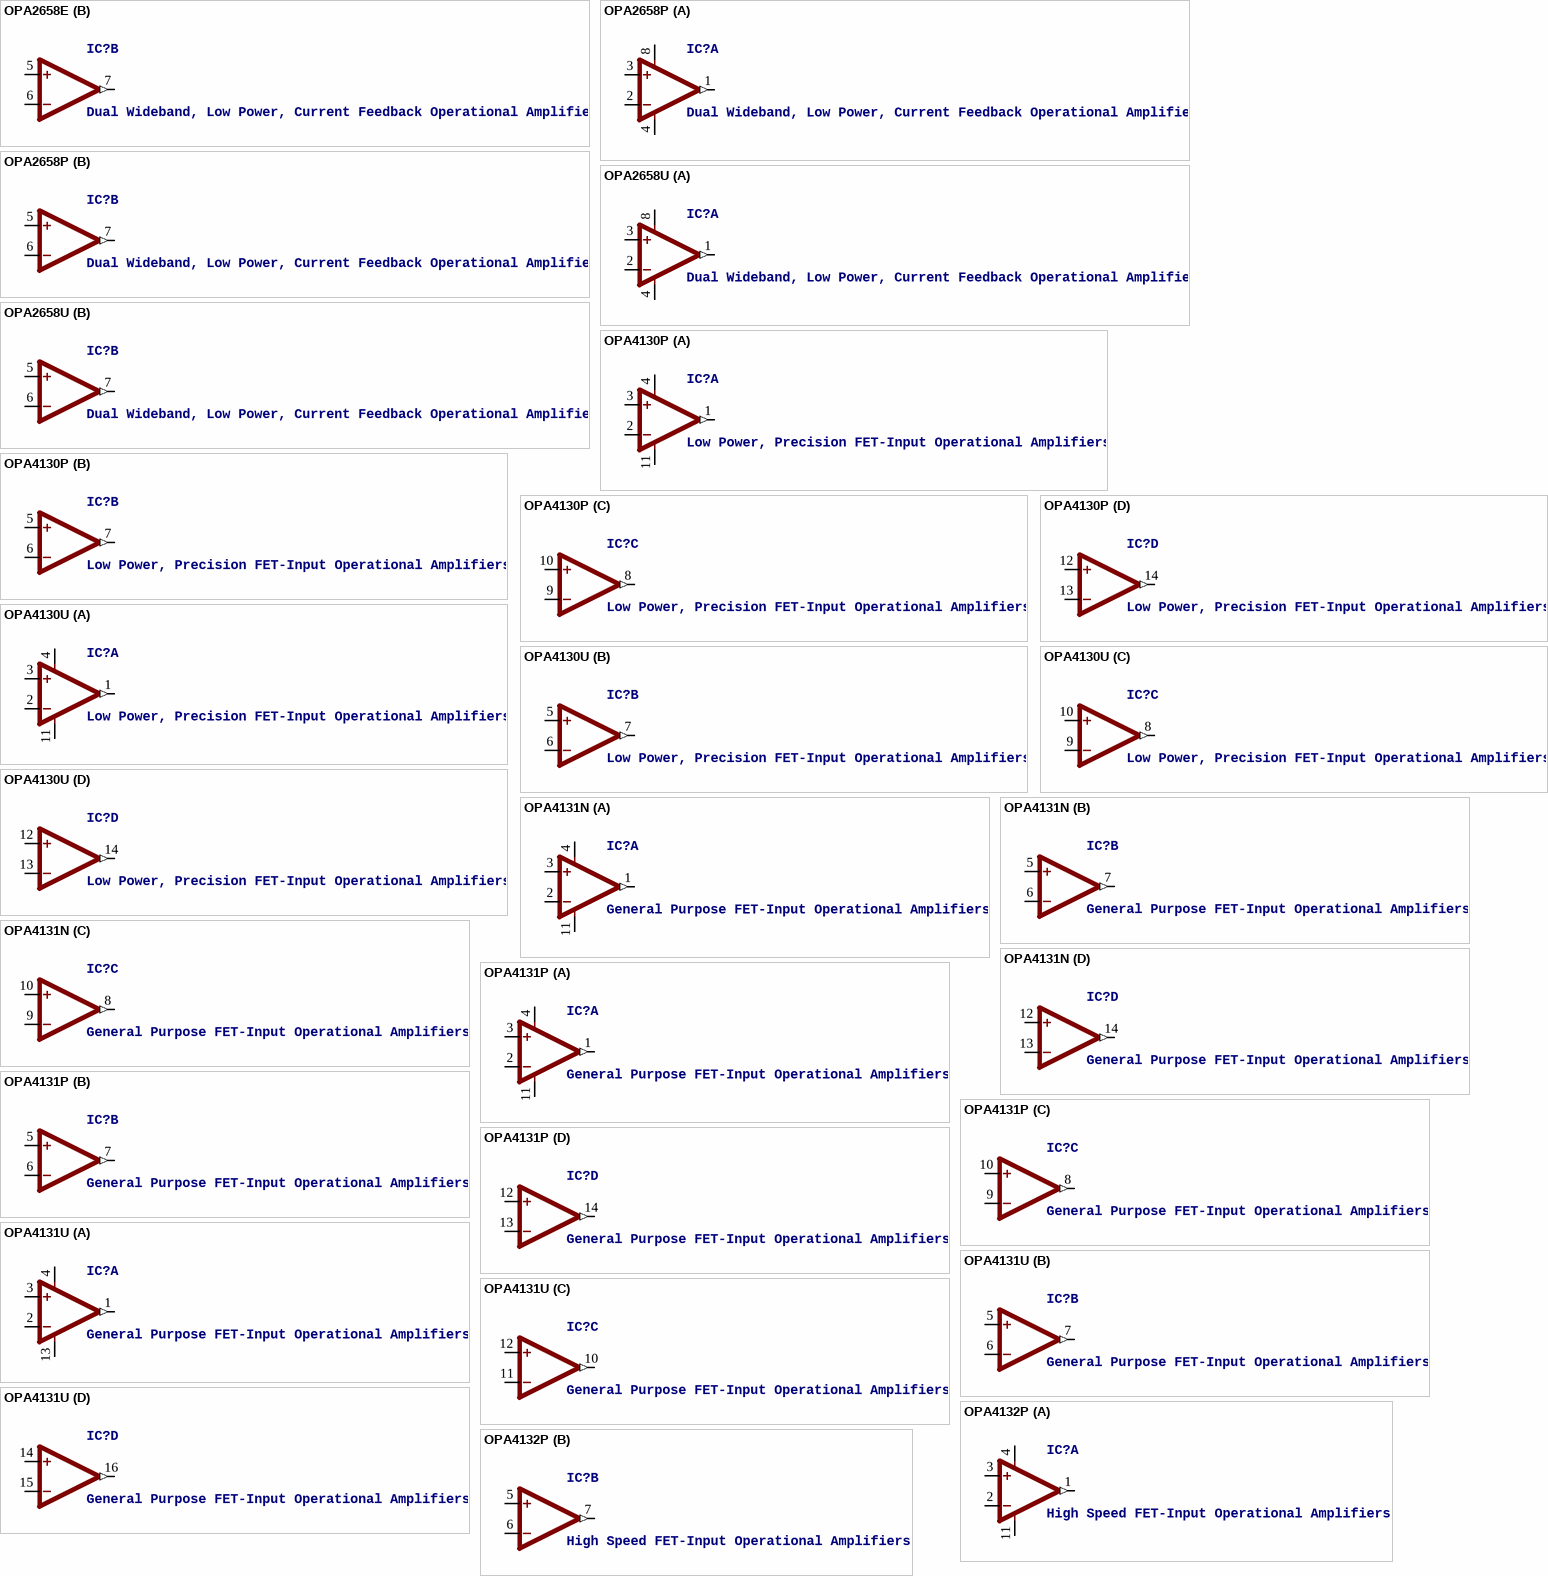
[diagram p20: symbols OPA2658E to OPA4132P]

## OPA2658E
designator IC?, comment Dual Wideband, Low Power, Current Feedback Operational Amplifier
OC_FARNELL: unknown; OC_NEWARK: unknown
footprint MSOP08
part A pins: 1 OUT (out), 2 -IN, 3 +IN, 4 V- (power), 8 V+ (power)
part B pins: 5 +IN, 6 -IN, 7 OUT (out)

## OPA2658P
designator IC?, comment Dual Wideband, Low Power, Current Feedback Operational Amplifier
OC_FARNELL: unknown; OC_NEWARK: unknown
footprint DIL08
part A pins: 1 OUT (out), 2 -IN, 3 +IN, 4 V- (power), 8 V+ (power)
part B pins: 5 +IN, 6 -IN, 7 OUT (out)

## OPA2658U
designator IC?, comment Dual Wideband, Low Power, Current Feedback Operational Amplifier
OC_FARNELL: unknown; OC_NEWARK: unknown
footprint SO08
part A pins: 1 OUT (out), 2 -IN, 3 +IN, 4 V- (power), 8 V+ (power)
part B pins: 5 +IN, 6 -IN, 7 OUT (out)

## OPA4130P
designator IC?, comment Low Power, Precision FET-Input Operational Amplifiers
OC_FARNELL: unknown; OC_NEWARK: unknown
footprint DIL14
part A pins: 1 OUT (out), 2 -IN, 3 +IN, 4 V+ (power), 11 V- (power)
part B pins: 5 +IN, 6 -IN, 7 OUT (out)
part C pins: 8 OUT (out), 9 -IN, 10 +IN
part D pins: 12 +IN, 13 -IN, 14 OUT (out)

## OPA4130U
designator IC?, comment Low Power, Precision FET-Input Operational Amplifiers
MPN: OPA4130UA; MF: TEXAS INSTRUMENTS; OC_FARNELL: 1648707; OC_NEWARK: 80K8080
footprint SO14
part A pins: 1 OUT (out), 2 -IN, 3 +IN, 4 V+ (power), 11 V- (power)
part B pins: 5 +IN, 6 -IN, 7 OUT (out)
part C pins: 8 OUT (out), 9 -IN, 10 +IN
part D pins: 12 +IN, 13 -IN, 14 OUT (out)

## OPA4131N
designator IC?, comment General Purpose FET-Input Operational Amplifiers
MPN: OPA4131NA; MF: TEXAS INSTRUMENTS; OC_FARNELL: 1564896; OC_NEWARK: 80K6025
footprint SO14
part A pins: 1 OUT (out), 2 -IN, 3 +IN, 4 V+ (power), 11 V- (power)
part B pins: 5 +IN, 6 -IN, 7 OUT (out)
part C pins: 8 OUT (out), 9 -IN, 10 +IN
part D pins: 12 +IN, 13 -IN, 14 OUT (out)

## OPA4131P
designator IC?, comment General Purpose FET-Input Operational Amplifiers
MPN: OPA4131PA; MF: TEXAS INSTRUMENTS; OC_FARNELL: 1509638; OC_NEWARK: 80K6027
footprint DIL14
part A pins: 1 OUT (out), 2 -IN, 3 +IN, 4 V+ (power), 11 V- (power)
part B pins: 5 +IN, 6 -IN, 7 OUT (out)
part C pins: 8 OUT (out), 9 -IN, 10 +IN
part D pins: 12 +IN, 13 -IN, 14 OUT (out)

## OPA4131U
designator IC?, comment General Purpose FET-Input Operational Amplifiers
MPN: OPA4131UA; MF: TEXAS INSTRUMENTS; OC_FARNELL: 1459611; OC_NEWARK: 75C4950
footprint SO16-1
part A pins: 1 OUT (out), 2 -IN, 3 +IN, 4 V+ (power), 13 V- (power)
part B pins: 5 +IN, 6 -IN, 7 OUT (out)
part C pins: 10 OUT (out), 11 -IN, 12 +IN
part D pins: 14 +IN, 15 -IN, 16 OUT (out)

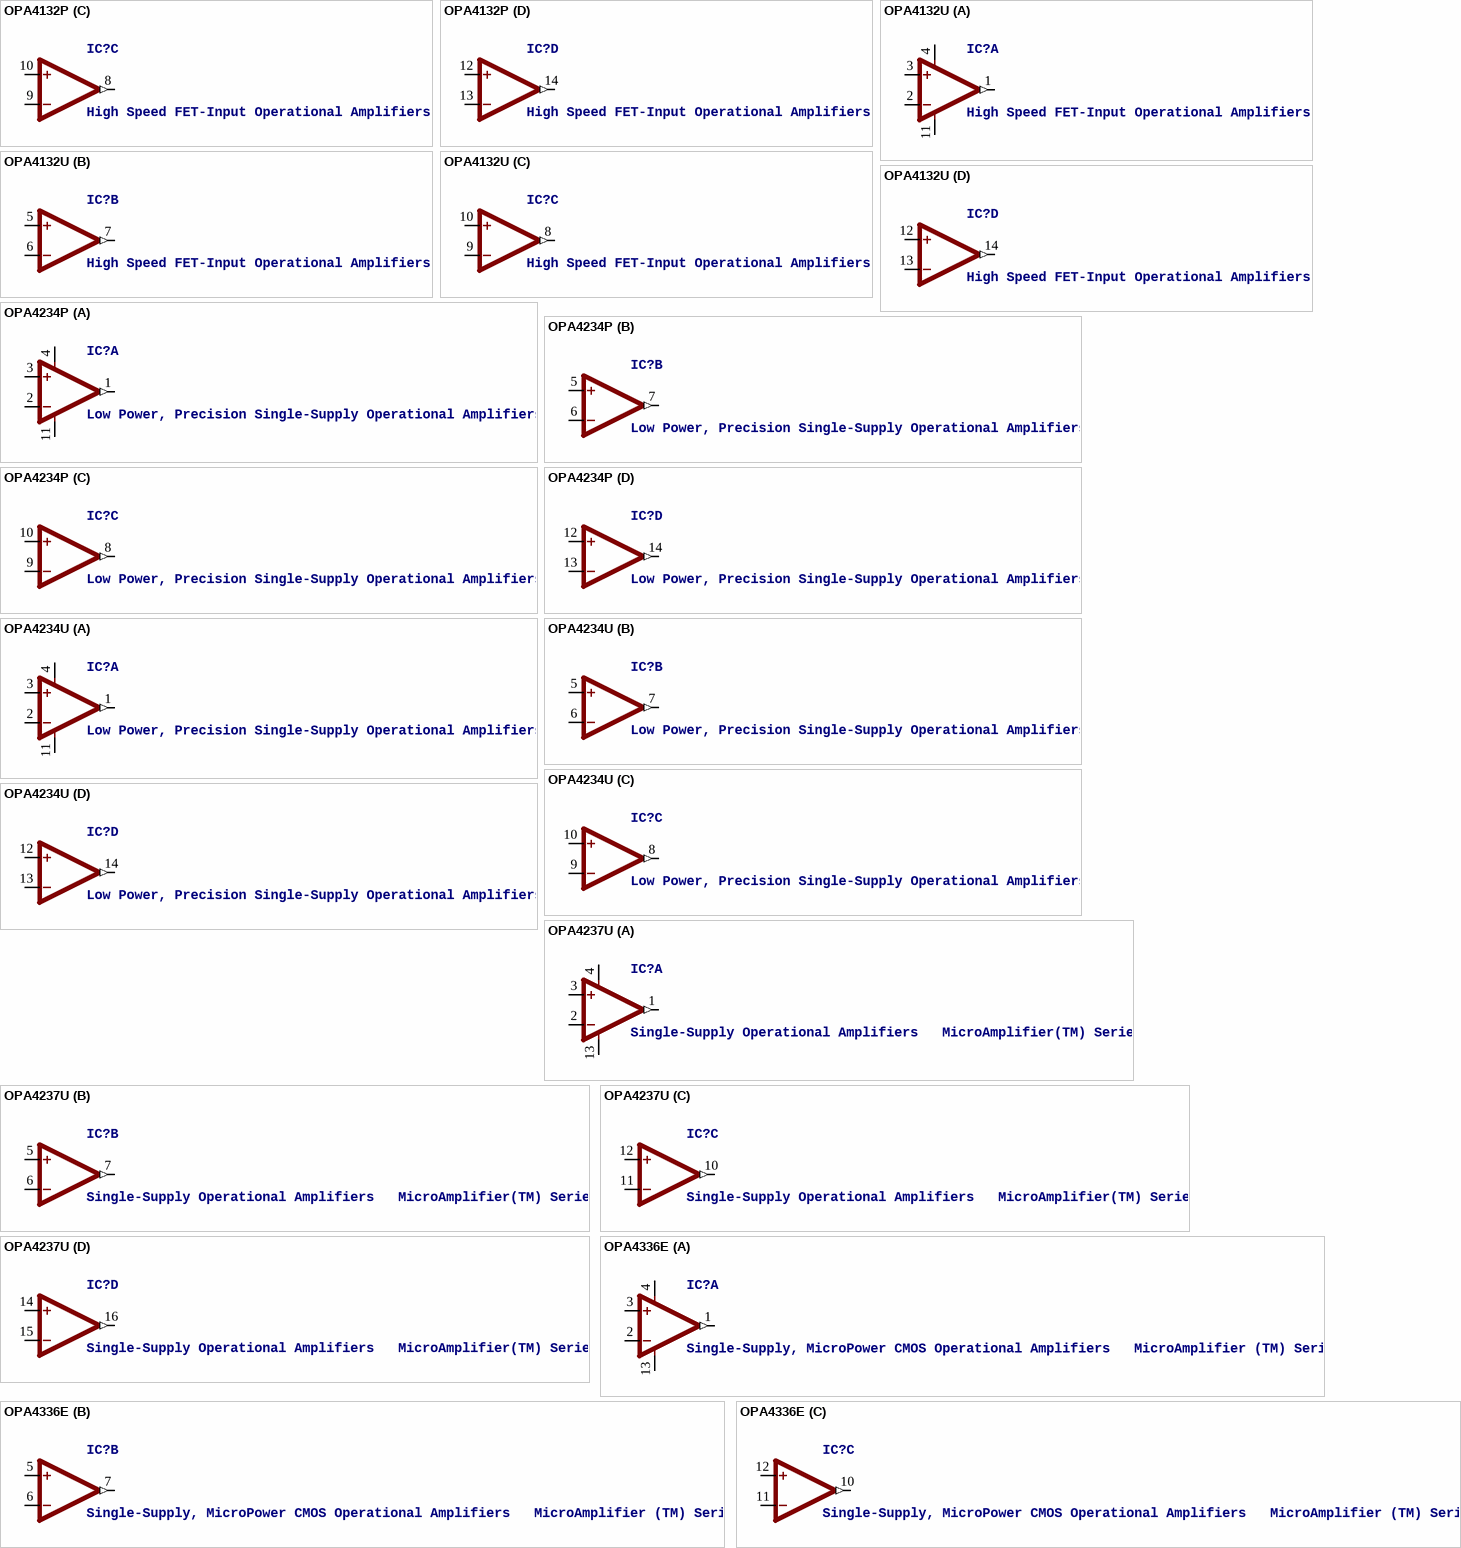
[diagram p21: symbols OPA4132P to OPA4336E]

## OPA4132P
designator IC?, comment High Speed FET-Input Operational Amplifiers
OC_FARNELL: unknown; OC_NEWARK: unknown
footprint DIL14
part A pins: 1 OUT (out), 2 -IN, 3 +IN, 4 V+ (power), 11 V- (power)
part B pins: 5 +IN, 6 -IN, 7 OUT (out)
part C pins: 8 OUT (out), 9 -IN, 10 +IN
part D pins: 12 +IN, 13 -IN, 14 OUT (out)